# Altium integrated library TI Microcontroller 32-Bit ARM.IntLib: 163 symbols (part 3 of 10)
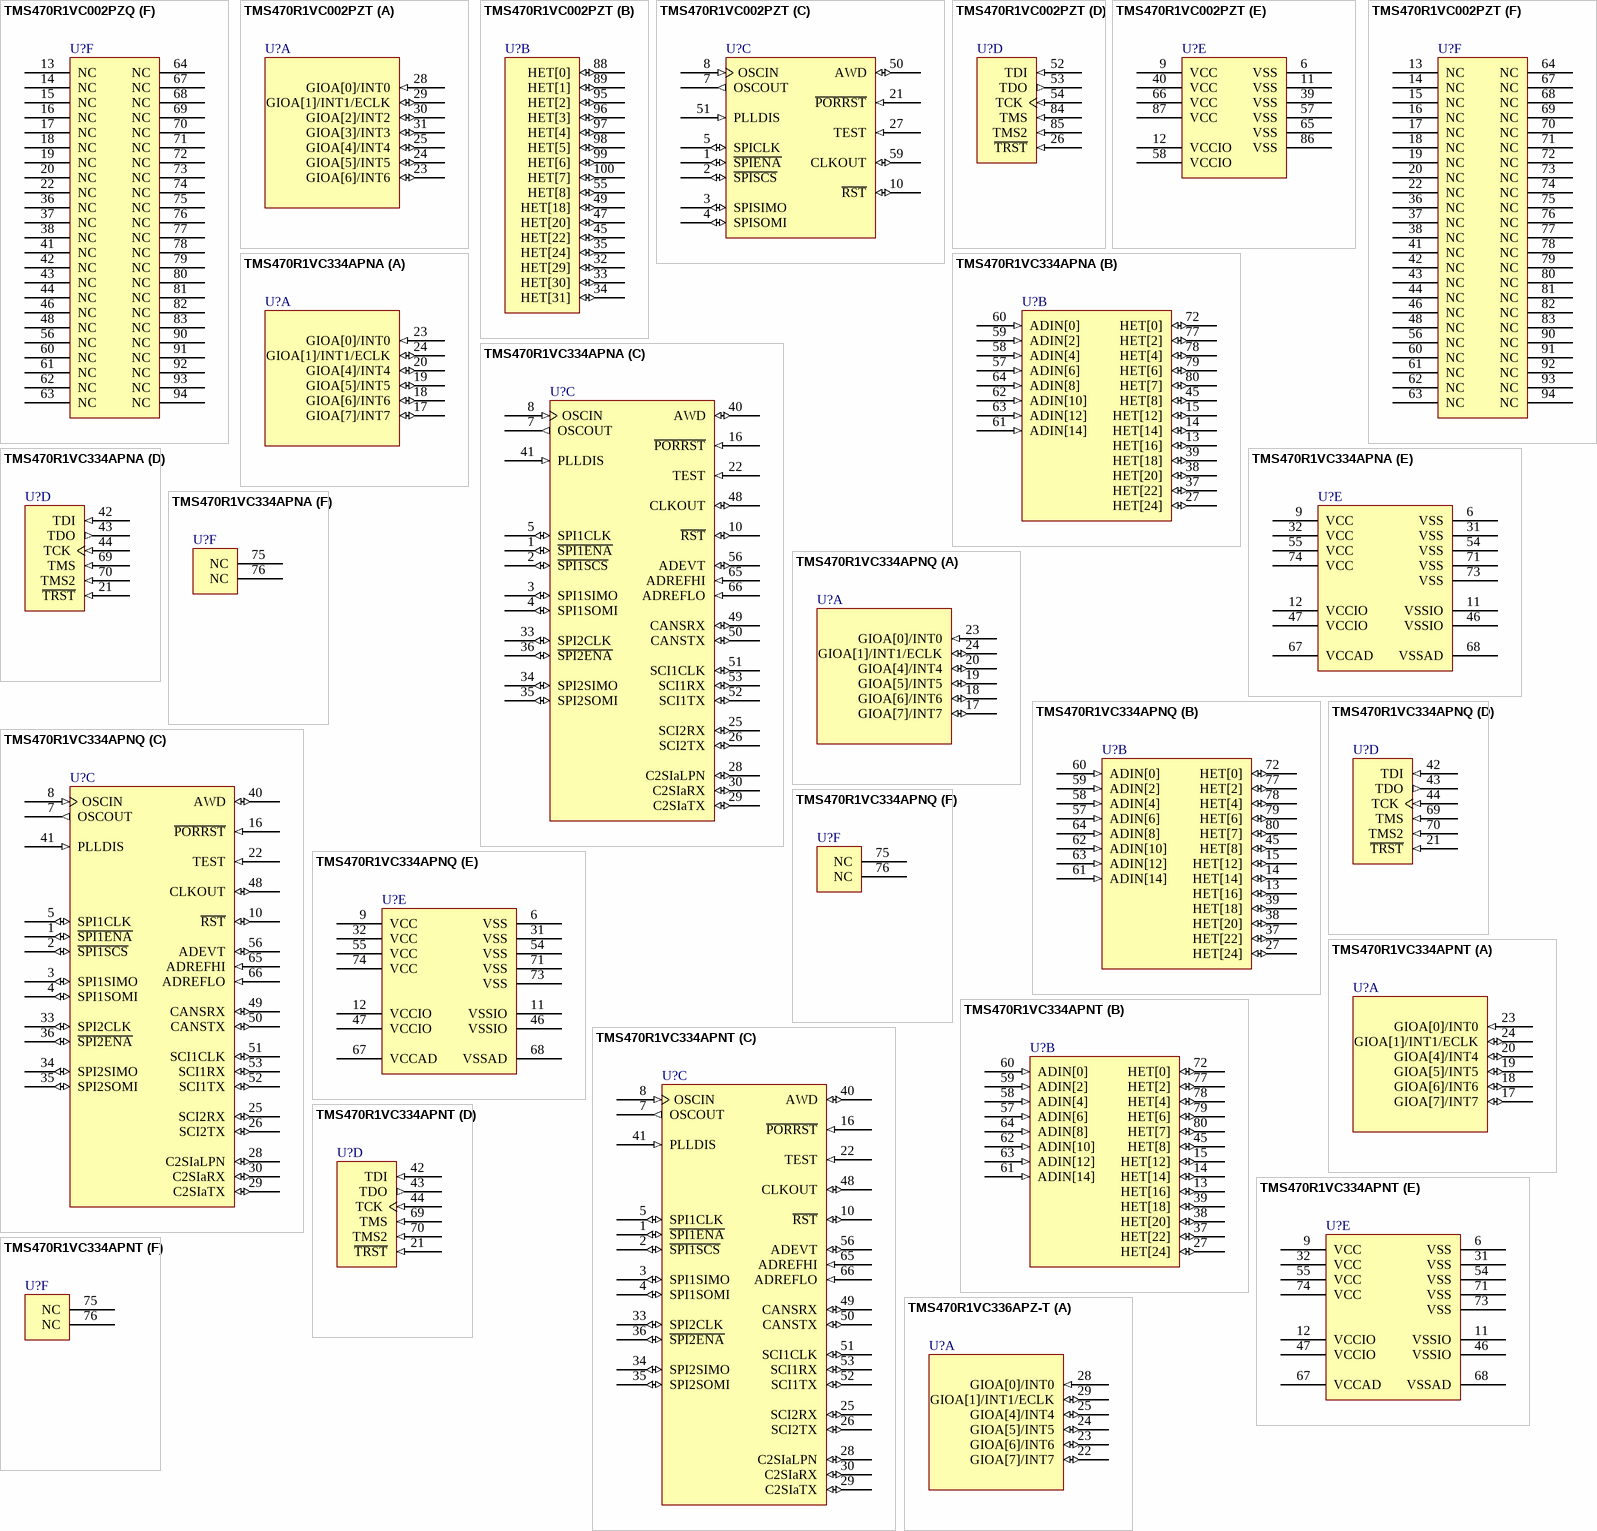
[diagram p54: symbols TMS470R1VC002PZQ to TMS470R1VC336APZ-T]

## TMS470R1VC002PZQ
designator U?
ARM7TDMI 16/32-Bit RISC Automotive MCU, 32KB ROM, 2.5KB RAM, 100-pin LQFP, -40ºC to 125ºC; Published: 30-Mar-2007; DatasheetVersion: Oct-2002; PackageVersion: Dec-1996; PackageReference: PZ100; Publisher: Altium Limited; PackageDescription: 100-Pin Thin Quad Flat Pack 0.5 mm Pitch; ComponentLink1Description: Manufacturer Link; ComponentLink1URL: http://www.ti.com/; ComponentLink2Description: Datasheet; ComponentLink2URL: http://focus.ti.com/lit/ds/symlink/tms470r1vc002.pdf
footprint PZ100_N (Thin QFP, 100-Leads, Body 14x14mm, Pitch 0.5mm, IPC Medium Density)
footprint PZ100_L (Thin QFP, 100-Leads, Body 14x14mm, Pitch 0.5mm, IPC High Density)
footprint PZ100_M (Thin QFP, 100-Leads, Body 14x14mm, Pitch 0.5mm, IPC Low Density)
part A pins: 23 GIOA[6]/INT6 (io), 24 GIOA[5]/INT5 (io), 25 GIOA[4]/INT4 (io), 28 GIOA[0]/INT0 (in), 29 GIOA[1]/INT1/ECLK (io), 30 GIOA[2]/INT2 (io), 31 GIOA[3]/INT3 (io)
part B pins: 32 HET[29] (io), 33 HET[30] (io), 34 HET[31] (io), 35 HET[24] (io), 45 HET[22] (io), 47 HET[20] (io), 49 HET[18] (io), 55 HET[8] (io), 88 HET[0] (io), 89 HET[1] (io), 95 HET[2] (io), 96 HET[3] (io), 97 HET[4] (io), 98 HET[5] (io), 99 HET[6] (io), 100 HET[7] (io)
part C pins: 1 ~{SPIENA} (io), 2 ~{SPISCS} (io), 3 SPISIMO (io), 4 SPISOMI (io), 5 SPICLK (io), 7 OSCOUT (out), 8 OSCIN (in), 10 ~{RST} (io), 21 ~{PORRST} (in), 27 TEST (in), 50 AWD (io), 51 PLLDIS (in), 59 CLKOUT (io)
part D pins: 26 ~{TRST} (in), 52 TDI (in), 53 TDO (out), 54 TCK (in), 84 TMS (in), 85 TMS2 (in) "Serial input for controlling the second TAP. For proper operation, this pin must be connected to VCC or not connected."
part E pins: 6 VSS (power), 9 VCC (power), 11 VSS (power), 12 VCCIO (power), 39 VSS (power), 40 VCC (power), 57 VSS (power), 58 VCCIO (power), 65 VSS (power), 66 VCC (power), 86 VSS (power), 87 VCC (power)
part F pins: 13 NC, 14 NC, 15 NC, 16 NC, 17 NC, 18 NC, 19 NC, 20 NC, 22 NC, 36 NC, 37 NC, 38 NC, 41 NC, 42 NC, 43 NC, 44 NC, 46 NC, 48 NC, 56 NC, 60 NC, 61 NC, 62 NC, 63 NC, 64 NC, 67 NC, 68 NC, 69 NC, 70 NC, 71 NC, 72 NC, 73 NC, 74 NC, 75 NC, 76 NC, 77 NC, 78 NC, 79 NC, 80 NC, 81 NC, 82 NC, 83 NC, 90 NC, 91 NC, 92 NC, 93 NC, 94 NC

## TMS470R1VC002PZT
designator U?
ARM7TDMI 16/32-Bit RISC Automotive MCU, 32KB ROM, 2.5KB RAM, 100-pin LQFP, -40ºC to 105ºC; Published: 30-Mar-2007; DatasheetVersion: Oct-2002; PackageVersion: Dec-1996; PackageReference: PZ100; Publisher: Altium Limited; PackageDescription: 100-Pin Thin Quad Flat Pack 0.5 mm Pitch; ComponentLink1Description: Manufacturer Link; ComponentLink1URL: http://www.ti.com/; ComponentLink2Description: Datasheet; ComponentLink2URL: http://focus.ti.com/lit/ds/symlink/tms470r1vc002.pdf
footprint PZ100_N (Thin QFP, 100-Leads, Body 14x14mm, Pitch 0.5mm, IPC Medium Density)
footprint PZ100_L (Thin QFP, 100-Leads, Body 14x14mm, Pitch 0.5mm, IPC High Density)
footprint PZ100_M (Thin QFP, 100-Leads, Body 14x14mm, Pitch 0.5mm, IPC Low Density)
part A pins: 23 GIOA[6]/INT6 (io), 24 GIOA[5]/INT5 (io), 25 GIOA[4]/INT4 (io), 28 GIOA[0]/INT0 (in), 29 GIOA[1]/INT1/ECLK (io), 30 GIOA[2]/INT2 (io), 31 GIOA[3]/INT3 (io)
part B pins: 32 HET[29] (io), 33 HET[30] (io), 34 HET[31] (io), 35 HET[24] (io), 45 HET[22] (io), 47 HET[20] (io), 49 HET[18] (io), 55 HET[8] (io), 88 HET[0] (io), 89 HET[1] (io), 95 HET[2] (io), 96 HET[3] (io), 97 HET[4] (io), 98 HET[5] (io), 99 HET[6] (io), 100 HET[7] (io)
part C pins: 1 ~{SPIENA} (io), 2 ~{SPISCS} (io), 3 SPISIMO (io), 4 SPISOMI (io), 5 SPICLK (io), 7 OSCOUT (out), 8 OSCIN (in), 10 ~{RST} (io), 21 ~{PORRST} (in), 27 TEST (in), 50 AWD (io), 51 PLLDIS (in), 59 CLKOUT (io)
part D pins: 26 ~{TRST} (in), 52 TDI (in), 53 TDO (out), 54 TCK (in), 84 TMS (in), 85 TMS2 (in) "Serial input for controlling the second TAP. For proper operation, this pin must be connected to VCC or not connected."
part E pins: 6 VSS (power), 9 VCC (power), 11 VSS (power), 12 VCCIO (power), 39 VSS (power), 40 VCC (power), 57 VSS (power), 58 VCCIO (power), 65 VSS (power), 66 VCC (power), 86 VSS (power), 87 VCC (power)
part F pins: 13 NC, 14 NC, 15 NC, 16 NC, 17 NC, 18 NC, 19 NC, 20 NC, 22 NC, 36 NC, 37 NC, 38 NC, 41 NC, 42 NC, 43 NC, 44 NC, 46 NC, 48 NC, 56 NC, 60 NC, 61 NC, 62 NC, 63 NC, 64 NC, 67 NC, 68 NC, 69 NC, 70 NC, 71 NC, 72 NC, 73 NC, 74 NC, 75 NC, 76 NC, 77 NC, 78 NC, 79 NC, 80 NC, 81 NC, 82 NC, 83 NC, 90 NC, 91 NC, 92 NC, 93 NC, 94 NC

## TMS470R1VC334APNA
designator U?
ARM7TDMI 16/32-Bit RISC Automotive MCU, 64KB ROM, 4KB RAM, 80-pin LQFP, -40ºC to 85ºC; Published: 30-Mar-2007; DatasheetVersion: Mar-2006; PackageVersion: Dec-1996; PackageReference: PN080; Publisher: Altium Limited; PackageDescription: 80-Pin Thin Quad Flat Pack 0.5 mm Pitch; ComponentLink1Description: Manufacturer Link; ComponentLink1URL: http://www.ti.com/; ComponentLink2Description: Datasheet; ComponentLink2URL: http://focus.ti.com/lit/ds/symlink/tms470r1vc334a.pdf
footprint PN080_N (Thin QFP, 80-Leads, Body 12x12mm, Pitch 0.5mm, IPC Medium Density)
footprint PN080_L (Thin QFP, 80-Leads, Body 12x12mm, Pitch 0.5mm, IPC High Density)
footprint PN080_M (Thin QFP, 80-Leads, Body 12x12mm, Pitch 0.5mm, IPC Low Density)
part A pins: 17 GIOA[7]/INT7 (io), 18 GIOA[6]/INT6 (io), 19 GIOA[5]/INT5 (io), 20 GIOA[4]/INT4 (io), 23 GIOA[0]/INT0 (in), 24 GIOA[1]/INT1/ECLK (io)
part B pins: 13 HET[16] (io), 14 HET[14] (io), 15 HET[12] (io), 27 HET[24] (io), 37 HET[22] (io), 38 HET[20] (io), 39 HET[18] (io), 45 HET[8] (io), 57 ADIN[6] (in), 58 ADIN[4] (in), 59 ADIN[2] (in), 60 ADIN[0] (in), 61 ADIN[14] (in), 62 ADIN[10] (in), 63 ADIN[12] (in), 64 ADIN[8] (in), 72 HET[0] (io), 77 HET[2] (io), 78 HET[4] (io), 79 HET[6] (io), 80 HET[7] (io)
part C pins: 1 ~{SPI1ENA} (io), 2 ~{SPI1SCS} (io), 3 SPI1SIMO (io), 4 SPI1SOMI (io), 5 SPI1CLK (io), 7 OSCOUT (out), 8 OSCIN (in), 10 ~{RST} (io), 16 ~{PORRST} (in), 22 TEST (in), 25 SCI2RX (io), 26 SCI2TX (io), 28 C2SIaLPN (io), 29 C2SIaTX (io), 30 C2SIaRX (io), 33 SPI2CLK (io), 34 SPI2SIMO (io), 35 SPI2SOMI (io), 36 ~{SPI2ENA} (io), 40 AWD (io), 41 PLLDIS (in), 48 CLKOUT (io), 49 CANSRX (io), 50 CANSTX (io), 51 SCI1CLK (io), 52 SCI1TX (io), 53 SCI1RX (io), 56 ADEVT (io), 65 ADREFHI (in), 66 ADREFLO (in)
part D pins: 21 ~{TRST} (in), 42 TDI (in), 43 TDO (out), 44 TCK (in), 69 TMS (in), 70 TMS2 (in)
part E pins: 6 VSS (power), 9 VCC (power), 11 VSSIO (power), 12 VCCIO (power), 31 VSS (power), 32 VCC (power), 46 VSSIO (power), 47 VCCIO (power), 54 VSS (power), 55 VCC (power), 67 VCCAD (power), 68 VSSAD (power), 71 VSS (power), 73 VSS (power), 74 VCC (power)
part F pins: 75 NC, 76 NC

## TMS470R1VC334APNQ
designator U?
ARM7TDMI 16/32-Bit RISC Automotive MCU, 64KB ROM, 4KB RAM, 80-pin LQFP, -40ºC to 125ºC; Published: 30-Mar-2007; DatasheetVersion: Mar-2006; PackageVersion: Dec-1996; PackageReference: PN080; Publisher: Altium Limited; PackageDescription: 80-Pin Thin Quad Flat Pack 0.5 mm Pitch; ComponentLink1Description: Manufacturer Link; ComponentLink1URL: http://www.ti.com/; ComponentLink2Description: Datasheet; ComponentLink2URL: http://focus.ti.com/lit/ds/symlink/tms470r1vc334a.pdf
footprint PN080_N (Thin QFP, 80-Leads, Body 12x12mm, Pitch 0.5mm, IPC Medium Density)
footprint PN080_L (Thin QFP, 80-Leads, Body 12x12mm, Pitch 0.5mm, IPC High Density)
footprint PN080_M (Thin QFP, 80-Leads, Body 12x12mm, Pitch 0.5mm, IPC Low Density)
part A pins: 17 GIOA[7]/INT7 (io), 18 GIOA[6]/INT6 (io), 19 GIOA[5]/INT5 (io), 20 GIOA[4]/INT4 (io), 23 GIOA[0]/INT0 (in), 24 GIOA[1]/INT1/ECLK (io)
part B pins: 13 HET[16] (io), 14 HET[14] (io), 15 HET[12] (io), 27 HET[24] (io), 37 HET[22] (io), 38 HET[20] (io), 39 HET[18] (io), 45 HET[8] (io), 57 ADIN[6] (in), 58 ADIN[4] (in), 59 ADIN[2] (in), 60 ADIN[0] (in), 61 ADIN[14] (in), 62 ADIN[10] (in), 63 ADIN[12] (in), 64 ADIN[8] (in), 72 HET[0] (io), 77 HET[2] (io), 78 HET[4] (io), 79 HET[6] (io), 80 HET[7] (io)
part C pins: 1 ~{SPI1ENA} (io), 2 ~{SPI1SCS} (io), 3 SPI1SIMO (io), 4 SPI1SOMI (io), 5 SPI1CLK (io), 7 OSCOUT (out), 8 OSCIN (in), 10 ~{RST} (io), 16 ~{PORRST} (in), 22 TEST (in), 25 SCI2RX (io), 26 SCI2TX (io), 28 C2SIaLPN (io), 29 C2SIaTX (io), 30 C2SIaRX (io), 33 SPI2CLK (io), 34 SPI2SIMO (io), 35 SPI2SOMI (io), 36 ~{SPI2ENA} (io), 40 AWD (io), 41 PLLDIS (in), 48 CLKOUT (io), 49 CANSRX (io), 50 CANSTX (io), 51 SCI1CLK (io), 52 SCI1TX (io), 53 SCI1RX (io), 56 ADEVT (io), 65 ADREFHI (in), 66 ADREFLO (in)
part D pins: 21 ~{TRST} (in), 42 TDI (in), 43 TDO (out), 44 TCK (in), 69 TMS (in), 70 TMS2 (in)
part E pins: 6 VSS (power), 9 VCC (power), 11 VSSIO (power), 12 VCCIO (power), 31 VSS (power), 32 VCC (power), 46 VSSIO (power), 47 VCCIO (power), 54 VSS (power), 55 VCC (power), 67 VCCAD (power), 68 VSSAD (power), 71 VSS (power), 73 VSS (power), 74 VCC (power)
part F pins: 75 NC, 76 NC

## TMS470R1VC334APNT
designator U?
ARM7TDMI 16/32-Bit RISC Automotive MCU, 64KB ROM, 4KB RAM, 80-pin LQFP, -40ºC to 105ºC; Published: 30-Mar-2007; DatasheetVersion: Mar-2006; PackageVersion: Dec-1996; PackageReference: PN080; Publisher: Altium Limited; PackageDescription: 80-Pin Thin Quad Flat Pack 0.5 mm Pitch; ComponentLink1Description: Manufacturer Link; ComponentLink1URL: http://www.ti.com/; ComponentLink2Description: Datasheet; ComponentLink2URL: http://focus.ti.com/lit/ds/symlink/tms470r1vc334a.pdf
footprint PN080_N (Thin QFP, 80-Leads, Body 12x12mm, Pitch 0.5mm, IPC Medium Density)
footprint PN080_L (Thin QFP, 80-Leads, Body 12x12mm, Pitch 0.5mm, IPC High Density)
footprint PN080_M (Thin QFP, 80-Leads, Body 12x12mm, Pitch 0.5mm, IPC Low Density)
part A pins: 17 GIOA[7]/INT7 (io), 18 GIOA[6]/INT6 (io), 19 GIOA[5]/INT5 (io), 20 GIOA[4]/INT4 (io), 23 GIOA[0]/INT0 (in), 24 GIOA[1]/INT1/ECLK (io)
part B pins: 13 HET[16] (io), 14 HET[14] (io), 15 HET[12] (io), 27 HET[24] (io), 37 HET[22] (io), 38 HET[20] (io), 39 HET[18] (io), 45 HET[8] (io), 57 ADIN[6] (in), 58 ADIN[4] (in), 59 ADIN[2] (in), 60 ADIN[0] (in), 61 ADIN[14] (in), 62 ADIN[10] (in), 63 ADIN[12] (in), 64 ADIN[8] (in), 72 HET[0] (io), 77 HET[2] (io), 78 HET[4] (io), 79 HET[6] (io), 80 HET[7] (io)
part C pins: 1 ~{SPI1ENA} (io), 2 ~{SPI1SCS} (io), 3 SPI1SIMO (io), 4 SPI1SOMI (io), 5 SPI1CLK (io), 7 OSCOUT (out), 8 OSCIN (in), 10 ~{RST} (io), 16 ~{PORRST} (in), 22 TEST (in), 25 SCI2RX (io), 26 SCI2TX (io), 28 C2SIaLPN (io), 29 C2SIaTX (io), 30 C2SIaRX (io), 33 SPI2CLK (io), 34 SPI2SIMO (io), 35 SPI2SOMI (io), 36 ~{SPI2ENA} (io), 40 AWD (io), 41 PLLDIS (in), 48 CLKOUT (io), 49 CANSRX (io), 50 CANSTX (io), 51 SCI1CLK (io), 52 SCI1TX (io), 53 SCI1RX (io), 56 ADEVT (io), 65 ADREFHI (in), 66 ADREFLO (in)
part D pins: 21 ~{TRST} (in), 42 TDI (in), 43 TDO (out), 44 TCK (in), 69 TMS (in), 70 TMS2 (in)
part E pins: 6 VSS (power), 9 VCC (power), 11 VSSIO (power), 12 VCCIO (power), 31 VSS (power), 32 VCC (power), 46 VSSIO (power), 47 VCCIO (power), 54 VSS (power), 55 VCC (power), 67 VCCAD (power), 68 VSSAD (power), 71 VSS (power), 73 VSS (power), 74 VCC (power)
part F pins: 75 NC, 76 NC

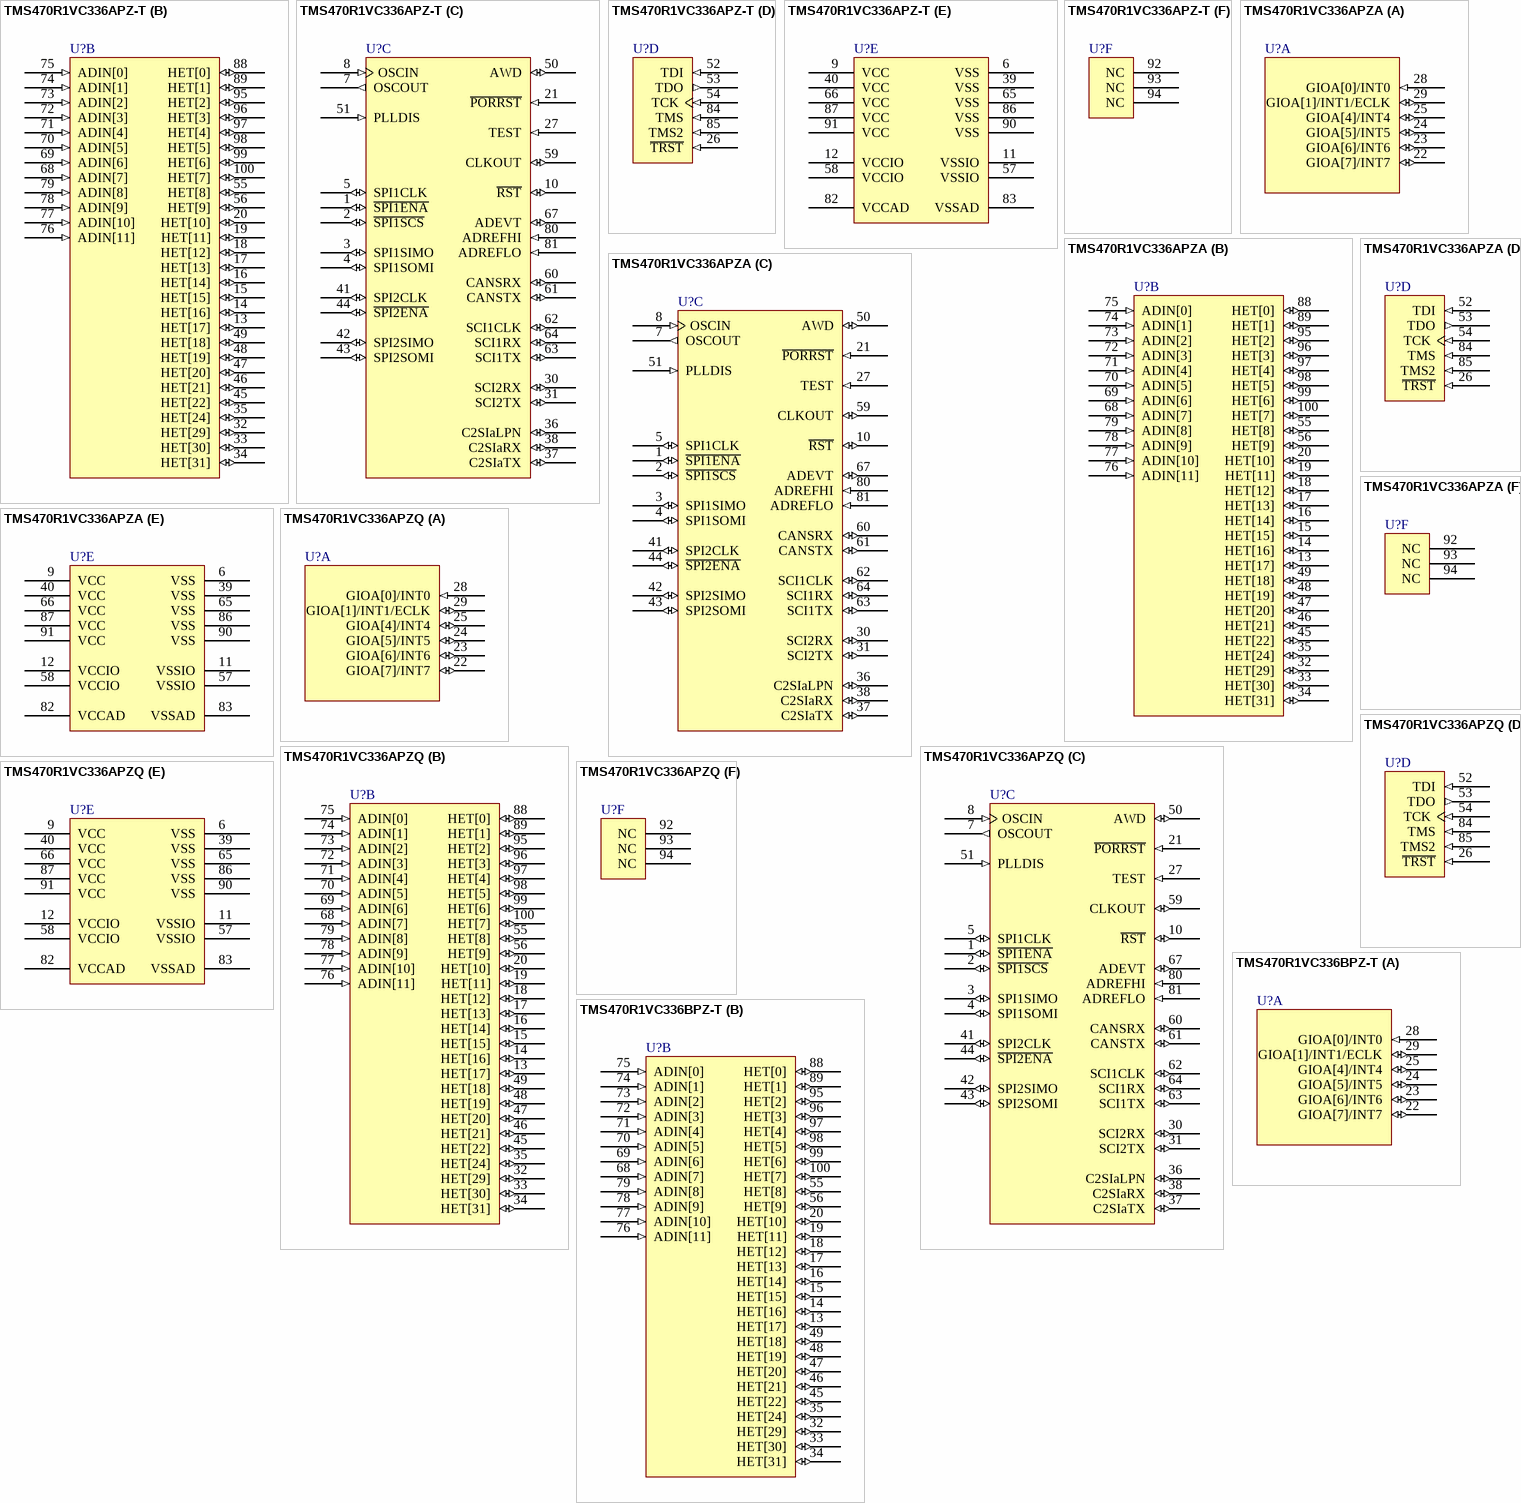
[diagram p12: symbols TMS470R1VC336APZ-T to TMS470R1VC336BPZ-T]

## TMS470R1VC336APZ-T
designator U?
ARM7TDMI 16/32-Bit RISC Automotive MCU, 128KB ROM, 8KB RAM, 100-pin LQFP, -40ºC to 105ºC; Note: The HET[28] signal is only connected to the pad, not to a package pin.; Published: 30-Mar-2007; DatasheetVersion: Aug-2006; PackageVersion: Dec-1996; PackageReference: PZ100; Publisher: Altium Limited; PackageDescription: 100-Pin Thin Quad Flat Pack 0.5 mm Pitch; ComponentLink1Description: Manufacturer Link; ComponentLink1URL: http://www.ti.com/; ComponentLink2Description: Datasheet; ComponentLink2URL: http://focus.ti.com/lit/ds/symlink/tms470r1vc336a.pdf
footprint PZ100_N (Thin QFP, 100-Leads, Body 14x14mm, Pitch 0.5mm, IPC Medium Density)
footprint PZ100_L (Thin QFP, 100-Leads, Body 14x14mm, Pitch 0.5mm, IPC High Density)
footprint PZ100_M (Thin QFP, 100-Leads, Body 14x14mm, Pitch 0.5mm, IPC Low Density)
part A pins: 22 GIOA[7]/INT7 (io), 23 GIOA[6]/INT6 (io), 24 GIOA[5]/INT5 (io), 25 GIOA[4]/INT4 (io), 28 GIOA[0]/INT0 (in), 29 GIOA[1]/INT1/ECLK (io)
part B pins: 13 HET[17] (io), 14 HET[16] (io), 15 HET[15] (io), 16 HET[14] (io), 17 HET[13] (io), 18 HET[12] (io), 19 HET[11] (io), 20 HET[10] (io), 32 HET[29] (io), 33 HET[30] (io), 34 HET[31] (io), 35 HET[24] (io), 45 HET[22] (io), 46 HET[21] (io), 47 HET[20] (io), 48 HET[19] (io), 49 HET[18] (io), 55 HET[8] (io), 56 HET[9] (io), 68 ADIN[7] (in), 69 ADIN[6] (in), 70 ADIN[5] (in), 71 ADIN[4] (in), 72 ADIN[3] (in), 73 ADIN[2] (in), 74 ADIN[1] (in), 75 ADIN[0] (in), 76 ADIN[11] (in), 77 ADIN[10] (in), 78 ADIN[9] (in), 79 ADIN[8] (in), 88 HET[0] (io), 89 HET[1] (io), 95 HET[2] (io), 96 HET[3] (io), 97 HET[4] (io), 98 HET[5] (io), 99 HET[6] (io), 100 HET[7] (io)
part C pins: 1 ~{SPI1ENA} (io), 2 ~{SPI1SCS} (io), 3 SPI1SIMO (io), 4 SPI1SOMI (io), 5 SPI1CLK (io), 7 OSCOUT (out), 8 OSCIN (in), 10 ~{RST} (io), 21 ~{PORRST} (in), 27 TEST (in), 30 SCI2RX (io), 31 SCI2TX (io), 36 C2SIaLPN (io), 37 C2SIaTX (io), 38 C2SIaRX (io), 41 SPI2CLK (io), 42 SPI2SIMO (io), 43 SPI2SOMI (io), 44 ~{SPI2ENA} (io), 50 AWD (io), 51 PLLDIS (in), 59 CLKOUT (io), 60 CANSRX (io), 61 CANSTX (io), 62 SCI1CLK (io), 63 SCI1TX (io), 64 SCI1RX (io), 67 ADEVT (io), 80 ADREFHI (in), 81 ADREFLO (in)
part D pins: 26 ~{TRST} (in), 52 TDI (in), 53 TDO (out), 54 TCK (in), 84 TMS (in), 85 TMS2 (in)
part E pins: 6 VSS (power), 9 VCC (power), 11 VSSIO (power), 12 VCCIO (power), 39 VSS (power), 40 VCC (power), 57 VSSIO (power), 58 VCCIO (power), 65 VSS (power), 66 VCC (power), 82 VCCAD (power), 83 VSSAD (power), 86 VSS (power), 87 VCC (power), 90 VSS (power), 91 VCC (power)
part F pins: 92 NC, 93 NC, 94 NC

## TMS470R1VC336APZA
designator U?
ARM7TDMI 16/32-Bit RISC Automotive MCU, 128KB ROM, 8KB RAM, 100-pin LQFP, -40ºC to 85ºC; Note: The HET[28] signal is only connected to the pad, not to a package pin.; Published: 30-Mar-2007; DatasheetVersion: Aug-2006; PackageVersion: Dec-1996; PackageReference: PZ100; Publisher: Altium Limited; PackageDescription: 100-Pin Thin Quad Flat Pack 0.5 mm Pitch; ComponentLink1Description: Manufacturer Link; ComponentLink1URL: http://www.ti.com/; ComponentLink2Description: Datasheet; ComponentLink2URL: http://focus.ti.com/lit/ds/symlink/tms470r1vc336a.pdf
footprint PZ100_N (Thin QFP, 100-Leads, Body 14x14mm, Pitch 0.5mm, IPC Medium Density)
footprint PZ100_L (Thin QFP, 100-Leads, Body 14x14mm, Pitch 0.5mm, IPC High Density)
footprint PZ100_M (Thin QFP, 100-Leads, Body 14x14mm, Pitch 0.5mm, IPC Low Density)
part A pins: 22 GIOA[7]/INT7 (io), 23 GIOA[6]/INT6 (io), 24 GIOA[5]/INT5 (io), 25 GIOA[4]/INT4 (io), 28 GIOA[0]/INT0 (in), 29 GIOA[1]/INT1/ECLK (io)
part B pins: 13 HET[17] (io), 14 HET[16] (io), 15 HET[15] (io), 16 HET[14] (io), 17 HET[13] (io), 18 HET[12] (io), 19 HET[11] (io), 20 HET[10] (io), 32 HET[29] (io), 33 HET[30] (io), 34 HET[31] (io), 35 HET[24] (io), 45 HET[22] (io), 46 HET[21] (io), 47 HET[20] (io), 48 HET[19] (io), 49 HET[18] (io), 55 HET[8] (io), 56 HET[9] (io), 68 ADIN[7] (in), 69 ADIN[6] (in), 70 ADIN[5] (in), 71 ADIN[4] (in), 72 ADIN[3] (in), 73 ADIN[2] (in), 74 ADIN[1] (in), 75 ADIN[0] (in), 76 ADIN[11] (in), 77 ADIN[10] (in), 78 ADIN[9] (in), 79 ADIN[8] (in), 88 HET[0] (io), 89 HET[1] (io), 95 HET[2] (io), 96 HET[3] (io), 97 HET[4] (io), 98 HET[5] (io), 99 HET[6] (io), 100 HET[7] (io)
part C pins: 1 ~{SPI1ENA} (io), 2 ~{SPI1SCS} (io), 3 SPI1SIMO (io), 4 SPI1SOMI (io), 5 SPI1CLK (io), 7 OSCOUT (out), 8 OSCIN (in), 10 ~{RST} (io), 21 ~{PORRST} (in), 27 TEST (in), 30 SCI2RX (io), 31 SCI2TX (io), 36 C2SIaLPN (io), 37 C2SIaTX (io), 38 C2SIaRX (io), 41 SPI2CLK (io), 42 SPI2SIMO (io), 43 SPI2SOMI (io), 44 ~{SPI2ENA} (io), 50 AWD (io), 51 PLLDIS (in), 59 CLKOUT (io), 60 CANSRX (io), 61 CANSTX (io), 62 SCI1CLK (io), 63 SCI1TX (io), 64 SCI1RX (io), 67 ADEVT (io), 80 ADREFHI (in), 81 ADREFLO (in)
part D pins: 26 ~{TRST} (in), 52 TDI (in), 53 TDO (out), 54 TCK (in), 84 TMS (in), 85 TMS2 (in)
part E pins: 6 VSS (power), 9 VCC (power), 11 VSSIO (power), 12 VCCIO (power), 39 VSS (power), 40 VCC (power), 57 VSSIO (power), 58 VCCIO (power), 65 VSS (power), 66 VCC (power), 82 VCCAD (power), 83 VSSAD (power), 86 VSS (power), 87 VCC (power), 90 VSS (power), 91 VCC (power)
part F pins: 92 NC, 93 NC, 94 NC

## TMS470R1VC336APZQ
designator U?
ARM7TDMI 16/32-Bit RISC Automotive MCU, 128KB ROM, 8KB RAM, 100-pin LQFP, -40ºC to 125ºC; Note: The HET[28] signal is only connected to the pad, not to a package pin.; Published: 30-Mar-2007; DatasheetVersion: Aug-2006; PackageVersion: Dec-1996; PackageReference: PZ100; Publisher: Altium Limited; PackageDescription: 100-Pin Thin Quad Flat Pack 0.5 mm Pitch; ComponentLink1Description: Manufacturer Link; ComponentLink1URL: http://www.ti.com/; ComponentLink2Description: Datasheet; ComponentLink2URL: http://focus.ti.com/lit/ds/symlink/tms470r1vc336a.pdf
footprint PZ100_N (Thin QFP, 100-Leads, Body 14x14mm, Pitch 0.5mm, IPC Medium Density)
footprint PZ100_L (Thin QFP, 100-Leads, Body 14x14mm, Pitch 0.5mm, IPC High Density)
footprint PZ100_M (Thin QFP, 100-Leads, Body 14x14mm, Pitch 0.5mm, IPC Low Density)
part A pins: 22 GIOA[7]/INT7 (io), 23 GIOA[6]/INT6 (io), 24 GIOA[5]/INT5 (io), 25 GIOA[4]/INT4 (io), 28 GIOA[0]/INT0 (in), 29 GIOA[1]/INT1/ECLK (io)
part B pins: 13 HET[17] (io), 14 HET[16] (io), 15 HET[15] (io), 16 HET[14] (io), 17 HET[13] (io), 18 HET[12] (io), 19 HET[11] (io), 20 HET[10] (io), 32 HET[29] (io), 33 HET[30] (io), 34 HET[31] (io), 35 HET[24] (io), 45 HET[22] (io), 46 HET[21] (io), 47 HET[20] (io), 48 HET[19] (io), 49 HET[18] (io), 55 HET[8] (io), 56 HET[9] (io), 68 ADIN[7] (in), 69 ADIN[6] (in), 70 ADIN[5] (in), 71 ADIN[4] (in), 72 ADIN[3] (in), 73 ADIN[2] (in), 74 ADIN[1] (in), 75 ADIN[0] (in), 76 ADIN[11] (in), 77 ADIN[10] (in), 78 ADIN[9] (in), 79 ADIN[8] (in), 88 HET[0] (io), 89 HET[1] (io), 95 HET[2] (io), 96 HET[3] (io), 97 HET[4] (io), 98 HET[5] (io), 99 HET[6] (io), 100 HET[7] (io)
part C pins: 1 ~{SPI1ENA} (io), 2 ~{SPI1SCS} (io), 3 SPI1SIMO (io), 4 SPI1SOMI (io), 5 SPI1CLK (io), 7 OSCOUT (out), 8 OSCIN (in), 10 ~{RST} (io), 21 ~{PORRST} (in), 27 TEST (in), 30 SCI2RX (io), 31 SCI2TX (io), 36 C2SIaLPN (io), 37 C2SIaTX (io), 38 C2SIaRX (io), 41 SPI2CLK (io), 42 SPI2SIMO (io), 43 SPI2SOMI (io), 44 ~{SPI2ENA} (io), 50 AWD (io), 51 PLLDIS (in), 59 CLKOUT (io), 60 CANSRX (io), 61 CANSTX (io), 62 SCI1CLK (io), 63 SCI1TX (io), 64 SCI1RX (io), 67 ADEVT (io), 80 ADREFHI (in), 81 ADREFLO (in)
part D pins: 26 ~{TRST} (in), 52 TDI (in), 53 TDO (out), 54 TCK (in), 84 TMS (in), 85 TMS2 (in)
part E pins: 6 VSS (power), 9 VCC (power), 11 VSSIO (power), 12 VCCIO (power), 39 VSS (power), 40 VCC (power), 57 VSSIO (power), 58 VCCIO (power), 65 VSS (power), 66 VCC (power), 82 VCCAD (power), 83 VSSAD (power), 86 VSS (power), 87 VCC (power), 90 VSS (power), 91 VCC (power)
part F pins: 92 NC, 93 NC, 94 NC

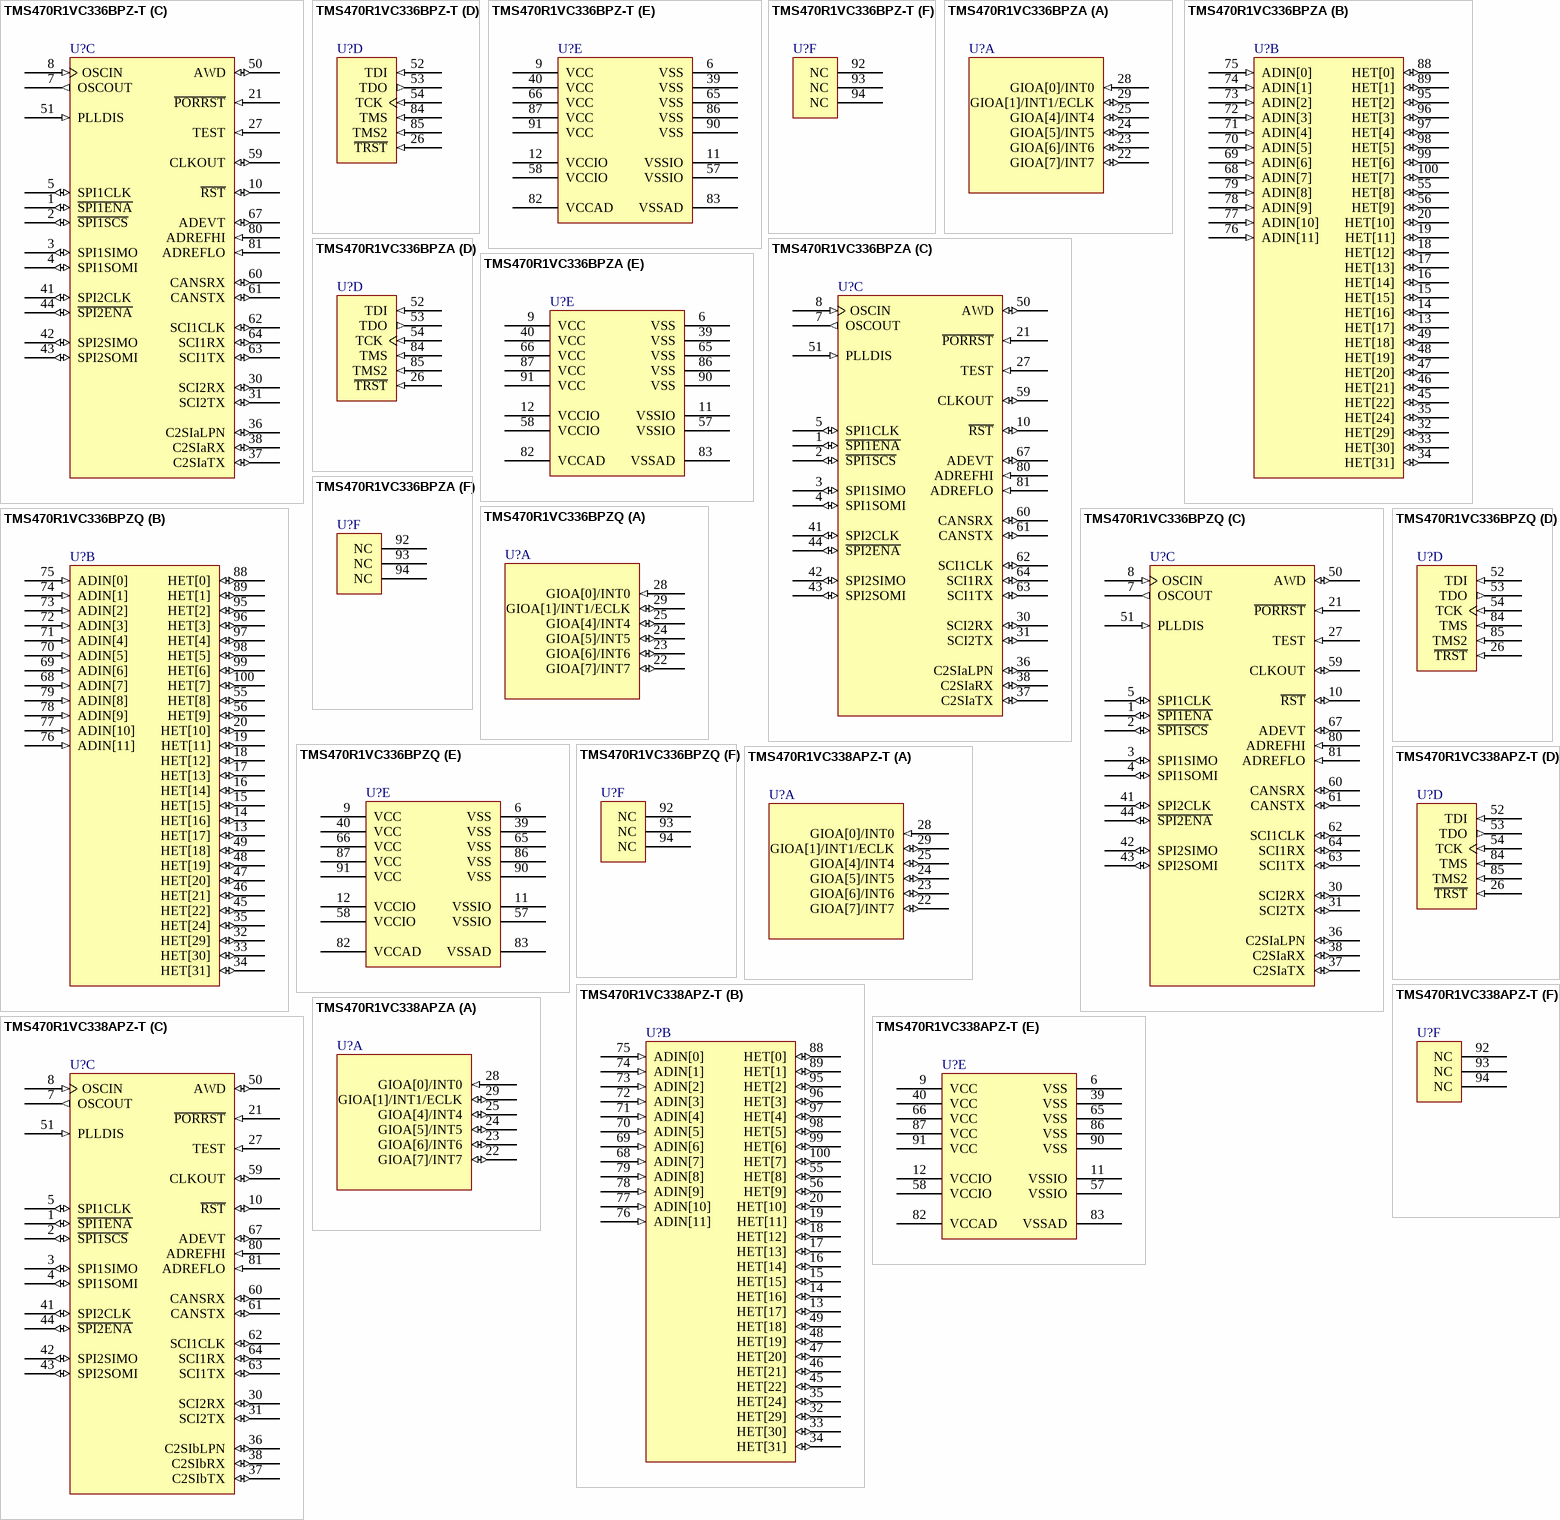
[diagram p13: symbols TMS470R1VC336BPZ-T to TMS470R1VC338APZA]

## TMS470R1VC336BPZ-T
designator U?
ARM7TDMI 16/32-Bit RISC Automotive MCU, 128KB ROM, 8KB RAM, 100-pin LQFP, -40ºC to 105ºC; Note: The HET[28] signal is only connected to the pad, not to a package pin.; Published: 30-Mar-2007; DatasheetVersion: Aug-2006; PackageVersion: Dec-1996; PackageReference: PZ100; Publisher: Altium Limited; PackageDescription: 100-Pin Thin Quad Flat Pack 0.5 mm Pitch; ComponentLink1Description: Manufacturer Link; ComponentLink1URL: http://www.ti.com/; ComponentLink2Description: Datasheet; ComponentLink2URL: http://focus.ti.com/lit/ds/symlink/tms470r1vc336a.pdf
footprint PZ100_N (Thin QFP, 100-Leads, Body 14x14mm, Pitch 0.5mm, IPC Medium Density)
footprint PZ100_L (Thin QFP, 100-Leads, Body 14x14mm, Pitch 0.5mm, IPC High Density)
footprint PZ100_M (Thin QFP, 100-Leads, Body 14x14mm, Pitch 0.5mm, IPC Low Density)
part A pins: 22 GIOA[7]/INT7 (io), 23 GIOA[6]/INT6 (io), 24 GIOA[5]/INT5 (io), 25 GIOA[4]/INT4 (io), 28 GIOA[0]/INT0 (in), 29 GIOA[1]/INT1/ECLK (io)
part B pins: 13 HET[17] (io), 14 HET[16] (io), 15 HET[15] (io), 16 HET[14] (io), 17 HET[13] (io), 18 HET[12] (io), 19 HET[11] (io), 20 HET[10] (io), 32 HET[29] (io), 33 HET[30] (io), 34 HET[31] (io), 35 HET[24] (io), 45 HET[22] (io), 46 HET[21] (io), 47 HET[20] (io), 48 HET[19] (io), 49 HET[18] (io), 55 HET[8] (io), 56 HET[9] (io), 68 ADIN[7] (in), 69 ADIN[6] (in), 70 ADIN[5] (in), 71 ADIN[4] (in), 72 ADIN[3] (in), 73 ADIN[2] (in), 74 ADIN[1] (in), 75 ADIN[0] (in), 76 ADIN[11] (in), 77 ADIN[10] (in), 78 ADIN[9] (in), 79 ADIN[8] (in), 88 HET[0] (io), 89 HET[1] (io), 95 HET[2] (io), 96 HET[3] (io), 97 HET[4] (io), 98 HET[5] (io), 99 HET[6] (io), 100 HET[7] (io)
part C pins: 1 ~{SPI1ENA} (io), 2 ~{SPI1SCS} (io), 3 SPI1SIMO (io), 4 SPI1SOMI (io), 5 SPI1CLK (io), 7 OSCOUT (out), 8 OSCIN (in), 10 ~{RST} (io), 21 ~{PORRST} (in), 27 TEST (in), 30 SCI2RX (io), 31 SCI2TX (io), 36 C2SIaLPN (io), 37 C2SIaTX (io), 38 C2SIaRX (io), 41 SPI2CLK (io), 42 SPI2SIMO (io), 43 SPI2SOMI (io), 44 ~{SPI2ENA} (io), 50 AWD (io), 51 PLLDIS (in), 59 CLKOUT (io), 60 CANSRX (io), 61 CANSTX (io), 62 SCI1CLK (io), 63 SCI1TX (io), 64 SCI1RX (io), 67 ADEVT (io), 80 ADREFHI (in), 81 ADREFLO (in)
part D pins: 26 ~{TRST} (in), 52 TDI (in), 53 TDO (out), 54 TCK (in), 84 TMS (in), 85 TMS2 (in)
part E pins: 6 VSS (power), 9 VCC (power), 11 VSSIO (power), 12 VCCIO (power), 39 VSS (power), 40 VCC (power), 57 VSSIO (power), 58 VCCIO (power), 65 VSS (power), 66 VCC (power), 82 VCCAD (power), 83 VSSAD (power), 86 VSS (power), 87 VCC (power), 90 VSS (power), 91 VCC (power)
part F pins: 92 NC, 93 NC, 94 NC

## TMS470R1VC336BPZA
designator U?
ARM7TDMI 16/32-Bit RISC Automotive MCU, 128KB ROM, 8KB RAM, 100-pin LQFP, -40ºC to 85ºC; Note: The HET[28] signal is only connected to the pad, not to a package pin.; Published: 30-Mar-2007; DatasheetVersion: Aug-2006; PackageVersion: Dec-1996; PackageReference: PZ100; Publisher: Altium Limited; PackageDescription: 100-Pin Thin Quad Flat Pack 0.5 mm Pitch; ComponentLink1Description: Manufacturer Link; ComponentLink1URL: http://www.ti.com/; ComponentLink2Description: Datasheet; ComponentLink2URL: http://focus.ti.com/lit/ds/symlink/tms470r1vc336a.pdf
footprint PZ100_N (Thin QFP, 100-Leads, Body 14x14mm, Pitch 0.5mm, IPC Medium Density)
footprint PZ100_L (Thin QFP, 100-Leads, Body 14x14mm, Pitch 0.5mm, IPC High Density)
footprint PZ100_M (Thin QFP, 100-Leads, Body 14x14mm, Pitch 0.5mm, IPC Low Density)
part A pins: 22 GIOA[7]/INT7 (io), 23 GIOA[6]/INT6 (io), 24 GIOA[5]/INT5 (io), 25 GIOA[4]/INT4 (io), 28 GIOA[0]/INT0 (in), 29 GIOA[1]/INT1/ECLK (io)
part B pins: 13 HET[17] (io), 14 HET[16] (io), 15 HET[15] (io), 16 HET[14] (io), 17 HET[13] (io), 18 HET[12] (io), 19 HET[11] (io), 20 HET[10] (io), 32 HET[29] (io), 33 HET[30] (io), 34 HET[31] (io), 35 HET[24] (io), 45 HET[22] (io), 46 HET[21] (io), 47 HET[20] (io), 48 HET[19] (io), 49 HET[18] (io), 55 HET[8] (io), 56 HET[9] (io), 68 ADIN[7] (in), 69 ADIN[6] (in), 70 ADIN[5] (in), 71 ADIN[4] (in), 72 ADIN[3] (in), 73 ADIN[2] (in), 74 ADIN[1] (in), 75 ADIN[0] (in), 76 ADIN[11] (in), 77 ADIN[10] (in), 78 ADIN[9] (in), 79 ADIN[8] (in), 88 HET[0] (io), 89 HET[1] (io), 95 HET[2] (io), 96 HET[3] (io), 97 HET[4] (io), 98 HET[5] (io), 99 HET[6] (io), 100 HET[7] (io)
part C pins: 1 ~{SPI1ENA} (io), 2 ~{SPI1SCS} (io), 3 SPI1SIMO (io), 4 SPI1SOMI (io), 5 SPI1CLK (io), 7 OSCOUT (out), 8 OSCIN (in), 10 ~{RST} (io), 21 ~{PORRST} (in), 27 TEST (in), 30 SCI2RX (io), 31 SCI2TX (io), 36 C2SIaLPN (io), 37 C2SIaTX (io), 38 C2SIaRX (io), 41 SPI2CLK (io), 42 SPI2SIMO (io), 43 SPI2SOMI (io), 44 ~{SPI2ENA} (io), 50 AWD (io), 51 PLLDIS (in), 59 CLKOUT (io), 60 CANSRX (io), 61 CANSTX (io), 62 SCI1CLK (io), 63 SCI1TX (io), 64 SCI1RX (io), 67 ADEVT (io), 80 ADREFHI (in), 81 ADREFLO (in)
part D pins: 26 ~{TRST} (in), 52 TDI (in), 53 TDO (out), 54 TCK (in), 84 TMS (in), 85 TMS2 (in)
part E pins: 6 VSS (power), 9 VCC (power), 11 VSSIO (power), 12 VCCIO (power), 39 VSS (power), 40 VCC (power), 57 VSSIO (power), 58 VCCIO (power), 65 VSS (power), 66 VCC (power), 82 VCCAD (power), 83 VSSAD (power), 86 VSS (power), 87 VCC (power), 90 VSS (power), 91 VCC (power)
part F pins: 92 NC, 93 NC, 94 NC

## TMS470R1VC336BPZQ
designator U?
ARM7TDMI 16/32-Bit RISC Automotive MCU, 128KB ROM, 8KB RAM, 100-pin LQFP, -40ºC to 125ºC; Note: The HET[28] signal is only connected to the pad, not to a package pin.; Published: 30-Mar-2007; DatasheetVersion: Aug-2006; PackageVersion: Dec-1996; PackageReference: PZ100; Publisher: Altium Limited; PackageDescription: 100-Pin Thin Quad Flat Pack 0.5 mm Pitch; ComponentLink1Description: Manufacturer Link; ComponentLink1URL: http://www.ti.com/; ComponentLink2Description: Datasheet; ComponentLink2URL: http://focus.ti.com/lit/ds/symlink/tms470r1vc336a.pdf
footprint PZ100_N (Thin QFP, 100-Leads, Body 14x14mm, Pitch 0.5mm, IPC Medium Density)
footprint PZ100_L (Thin QFP, 100-Leads, Body 14x14mm, Pitch 0.5mm, IPC High Density)
footprint PZ100_M (Thin QFP, 100-Leads, Body 14x14mm, Pitch 0.5mm, IPC Low Density)
part A pins: 22 GIOA[7]/INT7 (io), 23 GIOA[6]/INT6 (io), 24 GIOA[5]/INT5 (io), 25 GIOA[4]/INT4 (io), 28 GIOA[0]/INT0 (in), 29 GIOA[1]/INT1/ECLK (io)
part B pins: 13 HET[17] (io), 14 HET[16] (io), 15 HET[15] (io), 16 HET[14] (io), 17 HET[13] (io), 18 HET[12] (io), 19 HET[11] (io), 20 HET[10] (io), 32 HET[29] (io), 33 HET[30] (io), 34 HET[31] (io), 35 HET[24] (io), 45 HET[22] (io), 46 HET[21] (io), 47 HET[20] (io), 48 HET[19] (io), 49 HET[18] (io), 55 HET[8] (io), 56 HET[9] (io), 68 ADIN[7] (in), 69 ADIN[6] (in), 70 ADIN[5] (in), 71 ADIN[4] (in), 72 ADIN[3] (in), 73 ADIN[2] (in), 74 ADIN[1] (in), 75 ADIN[0] (in), 76 ADIN[11] (in), 77 ADIN[10] (in), 78 ADIN[9] (in), 79 ADIN[8] (in), 88 HET[0] (io), 89 HET[1] (io), 95 HET[2] (io), 96 HET[3] (io), 97 HET[4] (io), 98 HET[5] (io), 99 HET[6] (io), 100 HET[7] (io)
part C pins: 1 ~{SPI1ENA} (io), 2 ~{SPI1SCS} (io), 3 SPI1SIMO (io), 4 SPI1SOMI (io), 5 SPI1CLK (io), 7 OSCOUT (out), 8 OSCIN (in), 10 ~{RST} (io), 21 ~{PORRST} (in), 27 TEST (in), 30 SCI2RX (io), 31 SCI2TX (io), 36 C2SIaLPN (io), 37 C2SIaTX (io), 38 C2SIaRX (io), 41 SPI2CLK (io), 42 SPI2SIMO (io), 43 SPI2SOMI (io), 44 ~{SPI2ENA} (io), 50 AWD (io), 51 PLLDIS (in), 59 CLKOUT (io), 60 CANSRX (io), 61 CANSTX (io), 62 SCI1CLK (io), 63 SCI1TX (io), 64 SCI1RX (io), 67 ADEVT (io), 80 ADREFHI (in), 81 ADREFLO (in)
part D pins: 26 ~{TRST} (in), 52 TDI (in), 53 TDO (out), 54 TCK (in), 84 TMS (in), 85 TMS2 (in)
part E pins: 6 VSS (power), 9 VCC (power), 11 VSSIO (power), 12 VCCIO (power), 39 VSS (power), 40 VCC (power), 57 VSSIO (power), 58 VCCIO (power), 65 VSS (power), 66 VCC (power), 82 VCCAD (power), 83 VSSAD (power), 86 VSS (power), 87 VCC (power), 90 VSS (power), 91 VCC (power)
part F pins: 92 NC, 93 NC, 94 NC

## TMS470R1VC338APZ-T
designator U?
ARM7TDMI 16/32-Bit RISC Automotive MCU, 256KB ROM, 12KB RAM, 100-pin LQFP, -40ºC to 105ºC; Note: The HET[28] signal is only connected to the pad, not to a package pin.; Published: 30-Mar-2007; DatasheetVersion: Jan-2006; PackageVersion: Dec-1996; PackageReference: PZ100; Publisher: Altium Limited; PackageDescription: 100-Pin Thin Quad Flat Pack 0.5 mm Pitch; ComponentLink1Description: Manufacturer Link; ComponentLink1URL: http://www.ti.com/; ComponentLink2Description: Datasheet; ComponentLink2URL: http://focus.ti.com/lit/ds/symlink/tms470r1vc338.pdf
footprint PZ100_N (Thin QFP, 100-Leads, Body 14x14mm, Pitch 0.5mm, IPC Medium Density)
footprint PZ100_L (Thin QFP, 100-Leads, Body 14x14mm, Pitch 0.5mm, IPC High Density)
footprint PZ100_M (Thin QFP, 100-Leads, Body 14x14mm, Pitch 0.5mm, IPC Low Density)
part A pins: 22 GIOA[7]/INT7 (io), 23 GIOA[6]/INT6 (io), 24 GIOA[5]/INT5 (io), 25 GIOA[4]/INT4 (io), 28 GIOA[0]/INT0 (in), 29 GIOA[1]/INT1/ECLK (io)
part B pins: 13 HET[17] (io), 14 HET[16] (io), 15 HET[15] (io), 16 HET[14] (io), 17 HET[13] (io), 18 HET[12] (io), 19 HET[11] (io), 20 HET[10] (io), 32 HET[29] (io), 33 HET[30] (io), 34 HET[31] (io), 35 HET[24] (io), 45 HET[22] (io), 46 HET[21] (io), 47 HET[20] (io), 48 HET[19] (io), 49 HET[18] (io), 55 HET[8] (io), 56 HET[9] (io), 68 ADIN[7] (in), 69 ADIN[6] (in), 70 ADIN[5] (in), 71 ADIN[4] (in), 72 ADIN[3] (in), 73 ADIN[2] (in), 74 ADIN[1] (in), 75 ADIN[0] (in), 76 ADIN[11] (in), 77 ADIN[10] (in), 78 ADIN[9] (in), 79 ADIN[8] (in), 88 HET[0] (io), 89 HET[1] (io), 95 HET[2] (io), 96 HET[3] (io), 97 HET[4] (io), 98 HET[5] (io), 99 HET[6] (io), 100 HET[7] (io)
part C pins: 1 ~{SPI1ENA} (io), 2 ~{SPI1SCS} (io), 3 SPI1SIMO (io), 4 SPI1SOMI (io), 5 SPI1CLK (io), 7 OSCOUT (out), 8 OSCIN (in), 10 ~{RST} (io), 21 ~{PORRST} (in), 27 TEST (in), 30 SCI2RX (io), 31 SCI2TX (io), 36 C2SIbLPN (io), 37 C2SIbTX (io), 38 C2SIbRX (io), 41 SPI2CLK (io), 42 SPI2SIMO (io), 43 SPI2SOMI (io), 44 ~{SPI2ENA} (io), 50 AWD (io), 51 PLLDIS (in), 59 CLKOUT (io), 60 CANSRX (io), 61 CANSTX (io), 62 SCI1CLK (io), 63 SCI1TX (io), 64 SCI1RX (io), 67 ADEVT (io), 80 ADREFHI (in), 81 ADREFLO (in)
part D pins: 26 ~{TRST} (in), 52 TDI (in), 53 TDO (out), 54 TCK (in), 84 TMS (in), 85 TMS2 (in)
part E pins: 6 VSS (power), 9 VCC (power), 11 VSSIO (power), 12 VCCIO (power), 39 VSS (power), 40 VCC (power), 57 VSSIO (power), 58 VCCIO (power), 65 VSS (power), 66 VCC (power), 82 VCCAD (power), 83 VSSAD (power), 86 VSS (power), 87 VCC (power), 90 VSS (power), 91 VCC (power)
part F pins: 92 NC, 93 NC, 94 NC

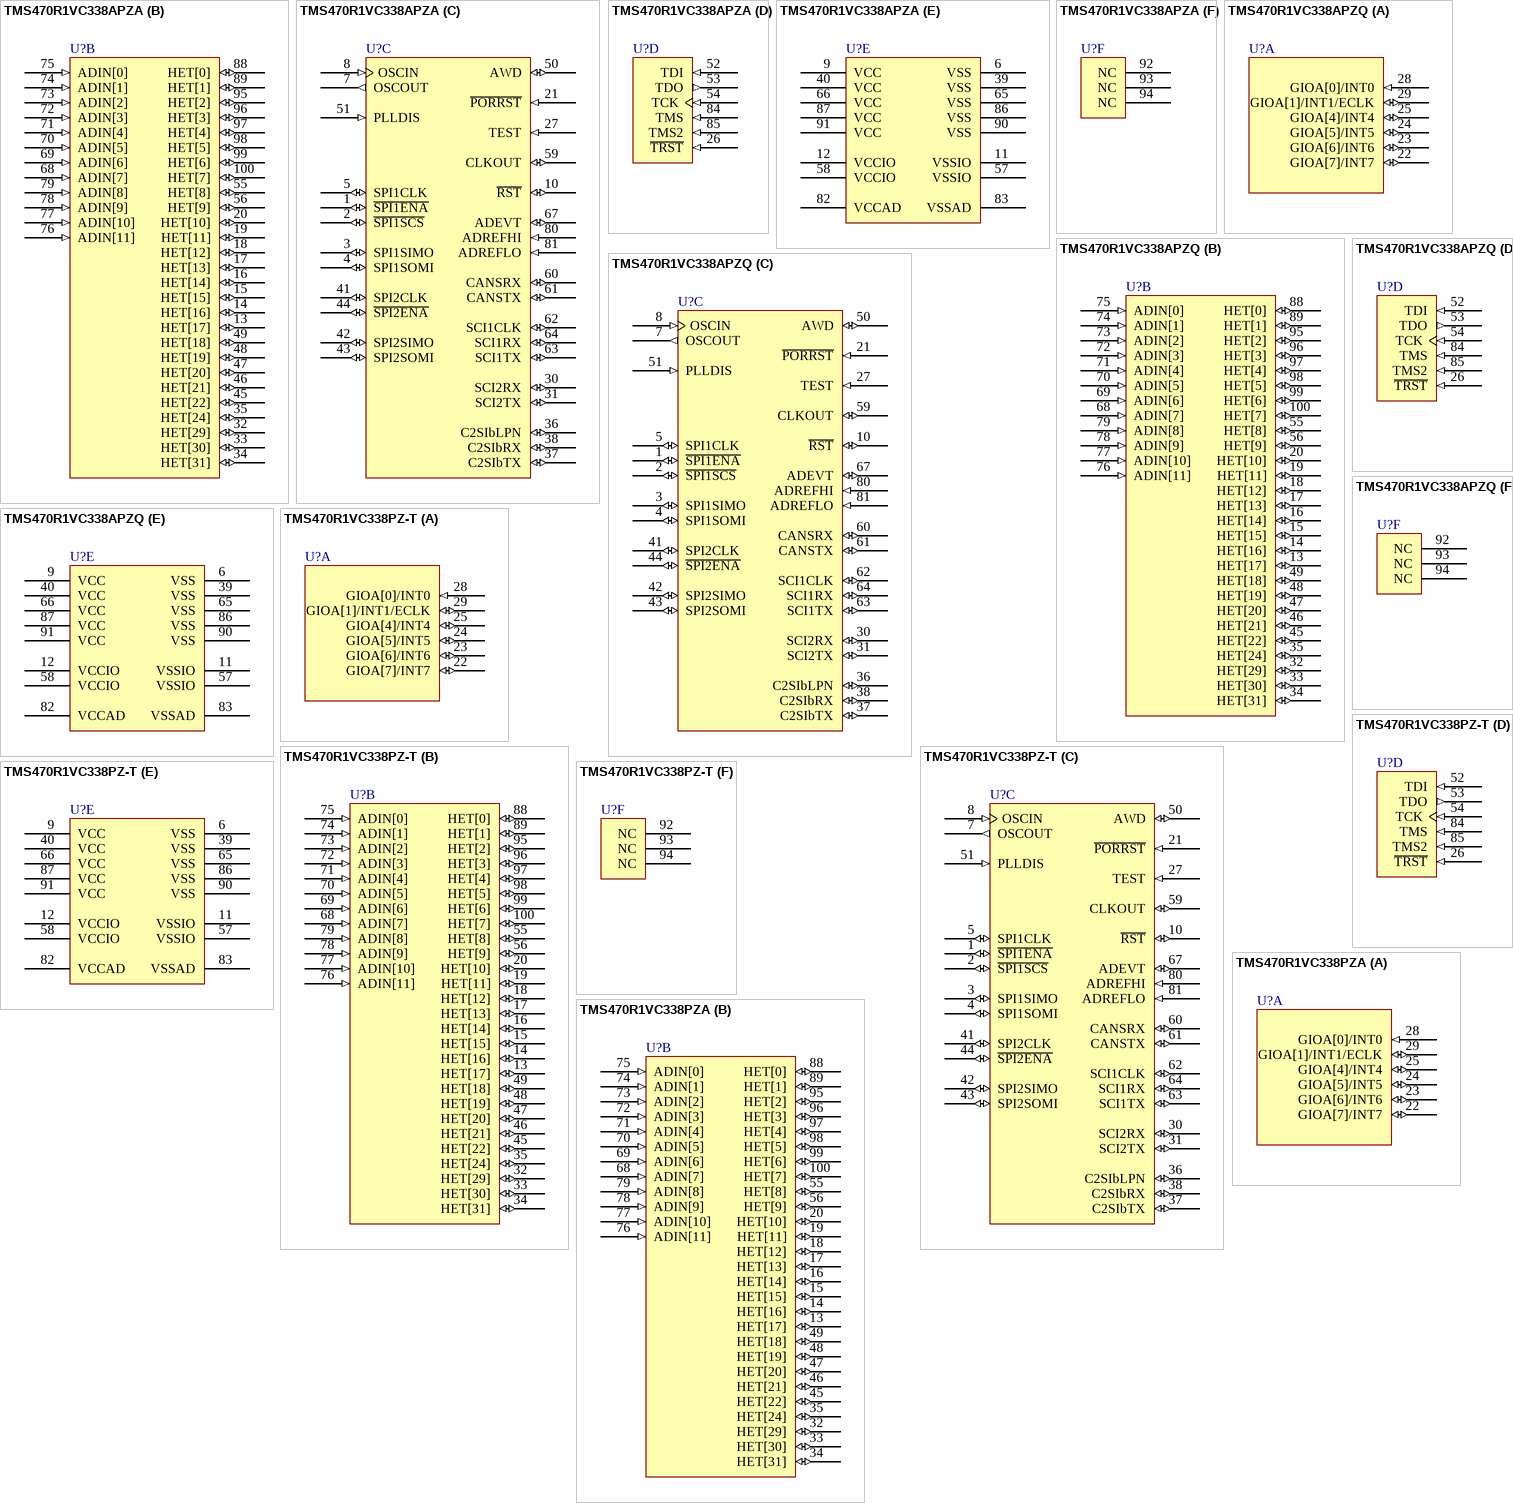
[diagram p14: symbols TMS470R1VC338APZA to TMS470R1VC338PZA]

## TMS470R1VC338APZA
designator U?
ARM7TDMI 16/32-Bit RISC Automotive MCU, 256KB ROM, 12KB RAM, 100-pin LQFP, -40ºC to 85ºC; Note: The HET[28] signal is only connected to the pad, not to a package pin.; Published: 30-Mar-2007; DatasheetVersion: Jan-2006; PackageVersion: Dec-1996; PackageReference: PZ100; Publisher: Altium Limited; PackageDescription: 100-Pin Thin Quad Flat Pack 0.5 mm Pitch; ComponentLink1Description: Manufacturer Link; ComponentLink1URL: http://www.ti.com/; ComponentLink2Description: Datasheet; ComponentLink2URL: http://focus.ti.com/lit/ds/symlink/tms470r1vc338.pdf
footprint PZ100_N (Thin QFP, 100-Leads, Body 14x14mm, Pitch 0.5mm, IPC Medium Density)
footprint PZ100_L (Thin QFP, 100-Leads, Body 14x14mm, Pitch 0.5mm, IPC High Density)
footprint PZ100_M (Thin QFP, 100-Leads, Body 14x14mm, Pitch 0.5mm, IPC Low Density)
part A pins: 22 GIOA[7]/INT7 (io), 23 GIOA[6]/INT6 (io), 24 GIOA[5]/INT5 (io), 25 GIOA[4]/INT4 (io), 28 GIOA[0]/INT0 (in), 29 GIOA[1]/INT1/ECLK (io)
part B pins: 13 HET[17] (io), 14 HET[16] (io), 15 HET[15] (io), 16 HET[14] (io), 17 HET[13] (io), 18 HET[12] (io), 19 HET[11] (io), 20 HET[10] (io), 32 HET[29] (io), 33 HET[30] (io), 34 HET[31] (io), 35 HET[24] (io), 45 HET[22] (io), 46 HET[21] (io), 47 HET[20] (io), 48 HET[19] (io), 49 HET[18] (io), 55 HET[8] (io), 56 HET[9] (io), 68 ADIN[7] (in), 69 ADIN[6] (in), 70 ADIN[5] (in), 71 ADIN[4] (in), 72 ADIN[3] (in), 73 ADIN[2] (in), 74 ADIN[1] (in), 75 ADIN[0] (in), 76 ADIN[11] (in), 77 ADIN[10] (in), 78 ADIN[9] (in), 79 ADIN[8] (in), 88 HET[0] (io), 89 HET[1] (io), 95 HET[2] (io), 96 HET[3] (io), 97 HET[4] (io), 98 HET[5] (io), 99 HET[6] (io), 100 HET[7] (io)
part C pins: 1 ~{SPI1ENA} (io), 2 ~{SPI1SCS} (io), 3 SPI1SIMO (io), 4 SPI1SOMI (io), 5 SPI1CLK (io), 7 OSCOUT (out), 8 OSCIN (in), 10 ~{RST} (io), 21 ~{PORRST} (in), 27 TEST (in), 30 SCI2RX (io), 31 SCI2TX (io), 36 C2SIbLPN (io), 37 C2SIbTX (io), 38 C2SIbRX (io), 41 SPI2CLK (io), 42 SPI2SIMO (io), 43 SPI2SOMI (io), 44 ~{SPI2ENA} (io), 50 AWD (io), 51 PLLDIS (in), 59 CLKOUT (io), 60 CANSRX (io), 61 CANSTX (io), 62 SCI1CLK (io), 63 SCI1TX (io), 64 SCI1RX (io), 67 ADEVT (io), 80 ADREFHI (in), 81 ADREFLO (in)
part D pins: 26 ~{TRST} (in), 52 TDI (in), 53 TDO (out), 54 TCK (in), 84 TMS (in), 85 TMS2 (in)
part E pins: 6 VSS (power), 9 VCC (power), 11 VSSIO (power), 12 VCCIO (power), 39 VSS (power), 40 VCC (power), 57 VSSIO (power), 58 VCCIO (power), 65 VSS (power), 66 VCC (power), 82 VCCAD (power), 83 VSSAD (power), 86 VSS (power), 87 VCC (power), 90 VSS (power), 91 VCC (power)
part F pins: 92 NC, 93 NC, 94 NC

## TMS470R1VC338APZQ
designator U?
ARM7TDMI 16/32-Bit RISC Automotive MCU, 256KB ROM, 12KB RAM, 100-pin LQFP, -40ºC to 125ºC; Note: The HET[28] signal is only connected to the pad, not to a package pin.; Published: 30-Mar-2007; DatasheetVersion: Jan-2006; PackageVersion: Dec-1996; PackageReference: PZ100; Publisher: Altium Limited; PackageDescription: 100-Pin Thin Quad Flat Pack 0.5 mm Pitch; ComponentLink1Description: Manufacturer Link; ComponentLink1URL: http://www.ti.com/; ComponentLink2Description: Datasheet; ComponentLink2URL: http://focus.ti.com/lit/ds/symlink/tms470r1vc338.pdf
footprint PZ100_N (Thin QFP, 100-Leads, Body 14x14mm, Pitch 0.5mm, IPC Medium Density)
footprint PZ100_L (Thin QFP, 100-Leads, Body 14x14mm, Pitch 0.5mm, IPC High Density)
footprint PZ100_M (Thin QFP, 100-Leads, Body 14x14mm, Pitch 0.5mm, IPC Low Density)
part A pins: 22 GIOA[7]/INT7 (io), 23 GIOA[6]/INT6 (io), 24 GIOA[5]/INT5 (io), 25 GIOA[4]/INT4 (io), 28 GIOA[0]/INT0 (in), 29 GIOA[1]/INT1/ECLK (io)
part B pins: 13 HET[17] (io), 14 HET[16] (io), 15 HET[15] (io), 16 HET[14] (io), 17 HET[13] (io), 18 HET[12] (io), 19 HET[11] (io), 20 HET[10] (io), 32 HET[29] (io), 33 HET[30] (io), 34 HET[31] (io), 35 HET[24] (io), 45 HET[22] (io), 46 HET[21] (io), 47 HET[20] (io), 48 HET[19] (io), 49 HET[18] (io), 55 HET[8] (io), 56 HET[9] (io), 68 ADIN[7] (in), 69 ADIN[6] (in), 70 ADIN[5] (in), 71 ADIN[4] (in), 72 ADIN[3] (in), 73 ADIN[2] (in), 74 ADIN[1] (in), 75 ADIN[0] (in), 76 ADIN[11] (in), 77 ADIN[10] (in), 78 ADIN[9] (in), 79 ADIN[8] (in), 88 HET[0] (io), 89 HET[1] (io), 95 HET[2] (io), 96 HET[3] (io), 97 HET[4] (io), 98 HET[5] (io), 99 HET[6] (io), 100 HET[7] (io)
part C pins: 1 ~{SPI1ENA} (io), 2 ~{SPI1SCS} (io), 3 SPI1SIMO (io), 4 SPI1SOMI (io), 5 SPI1CLK (io), 7 OSCOUT (out), 8 OSCIN (in), 10 ~{RST} (io), 21 ~{PORRST} (in), 27 TEST (in), 30 SCI2RX (io), 31 SCI2TX (io), 36 C2SIbLPN (io), 37 C2SIbTX (io), 38 C2SIbRX (io), 41 SPI2CLK (io), 42 SPI2SIMO (io), 43 SPI2SOMI (io), 44 ~{SPI2ENA} (io), 50 AWD (io), 51 PLLDIS (in), 59 CLKOUT (io), 60 CANSRX (io), 61 CANSTX (io), 62 SCI1CLK (io), 63 SCI1TX (io), 64 SCI1RX (io), 67 ADEVT (io), 80 ADREFHI (in), 81 ADREFLO (in)
part D pins: 26 ~{TRST} (in), 52 TDI (in), 53 TDO (out), 54 TCK (in), 84 TMS (in), 85 TMS2 (in)
part E pins: 6 VSS (power), 9 VCC (power), 11 VSSIO (power), 12 VCCIO (power), 39 VSS (power), 40 VCC (power), 57 VSSIO (power), 58 VCCIO (power), 65 VSS (power), 66 VCC (power), 82 VCCAD (power), 83 VSSAD (power), 86 VSS (power), 87 VCC (power), 90 VSS (power), 91 VCC (power)
part F pins: 92 NC, 93 NC, 94 NC

## TMS470R1VC338PZ-T
designator U?
ARM7TDMI 16/32-Bit RISC Automotive MCU, 256KB ROM, 12KB RAM, 100-pin LQFP, -40ºC to 105ºC; Note: The HET[28] signal is only connected to the pad, not to a package pin.; Published: 30-Mar-2007; DatasheetVersion: Jan-2006; PackageVersion: Dec-1996; PackageReference: PZ100; Publisher: Altium Limited; PackageDescription: 100-Pin Thin Quad Flat Pack 0.5 mm Pitch; ComponentLink1Description: Manufacturer Link; ComponentLink1URL: http://www.ti.com/; ComponentLink2Description: Datasheet; ComponentLink2URL: http://focus.ti.com/lit/ds/symlink/tms470r1vc338.pdf
footprint PZ100_N (Thin QFP, 100-Leads, Body 14x14mm, Pitch 0.5mm, IPC Medium Density)
footprint PZ100_L (Thin QFP, 100-Leads, Body 14x14mm, Pitch 0.5mm, IPC High Density)
footprint PZ100_M (Thin QFP, 100-Leads, Body 14x14mm, Pitch 0.5mm, IPC Low Density)
part A pins: 22 GIOA[7]/INT7 (io), 23 GIOA[6]/INT6 (io), 24 GIOA[5]/INT5 (io), 25 GIOA[4]/INT4 (io), 28 GIOA[0]/INT0 (in), 29 GIOA[1]/INT1/ECLK (io)
part B pins: 13 HET[17] (io), 14 HET[16] (io), 15 HET[15] (io), 16 HET[14] (io), 17 HET[13] (io), 18 HET[12] (io), 19 HET[11] (io), 20 HET[10] (io), 32 HET[29] (io), 33 HET[30] (io), 34 HET[31] (io), 35 HET[24] (io), 45 HET[22] (io), 46 HET[21] (io), 47 HET[20] (io), 48 HET[19] (io), 49 HET[18] (io), 55 HET[8] (io), 56 HET[9] (io), 68 ADIN[7] (in), 69 ADIN[6] (in), 70 ADIN[5] (in), 71 ADIN[4] (in), 72 ADIN[3] (in), 73 ADIN[2] (in), 74 ADIN[1] (in), 75 ADIN[0] (in), 76 ADIN[11] (in), 77 ADIN[10] (in), 78 ADIN[9] (in), 79 ADIN[8] (in), 88 HET[0] (io), 89 HET[1] (io), 95 HET[2] (io), 96 HET[3] (io), 97 HET[4] (io), 98 HET[5] (io), 99 HET[6] (io), 100 HET[7] (io)
part C pins: 1 ~{SPI1ENA} (io), 2 ~{SPI1SCS} (io), 3 SPI1SIMO (io), 4 SPI1SOMI (io), 5 SPI1CLK (io), 7 OSCOUT (out), 8 OSCIN (in), 10 ~{RST} (io), 21 ~{PORRST} (in), 27 TEST (in), 30 SCI2RX (io), 31 SCI2TX (io), 36 C2SIbLPN (io), 37 C2SIbTX (io), 38 C2SIbRX (io), 41 SPI2CLK (io), 42 SPI2SIMO (io), 43 SPI2SOMI (io), 44 ~{SPI2ENA} (io), 50 AWD (io), 51 PLLDIS (in), 59 CLKOUT (io), 60 CANSRX (io), 61 CANSTX (io), 62 SCI1CLK (io), 63 SCI1TX (io), 64 SCI1RX (io), 67 ADEVT (io), 80 ADREFHI (in), 81 ADREFLO (in)
part D pins: 26 ~{TRST} (in), 52 TDI (in), 53 TDO (out), 54 TCK (in), 84 TMS (in), 85 TMS2 (in)
part E pins: 6 VSS (power), 9 VCC (power), 11 VSSIO (power), 12 VCCIO (power), 39 VSS (power), 40 VCC (power), 57 VSSIO (power), 58 VCCIO (power), 65 VSS (power), 66 VCC (power), 82 VCCAD (power), 83 VSSAD (power), 86 VSS (power), 87 VCC (power), 90 VSS (power), 91 VCC (power)
part F pins: 92 NC, 93 NC, 94 NC

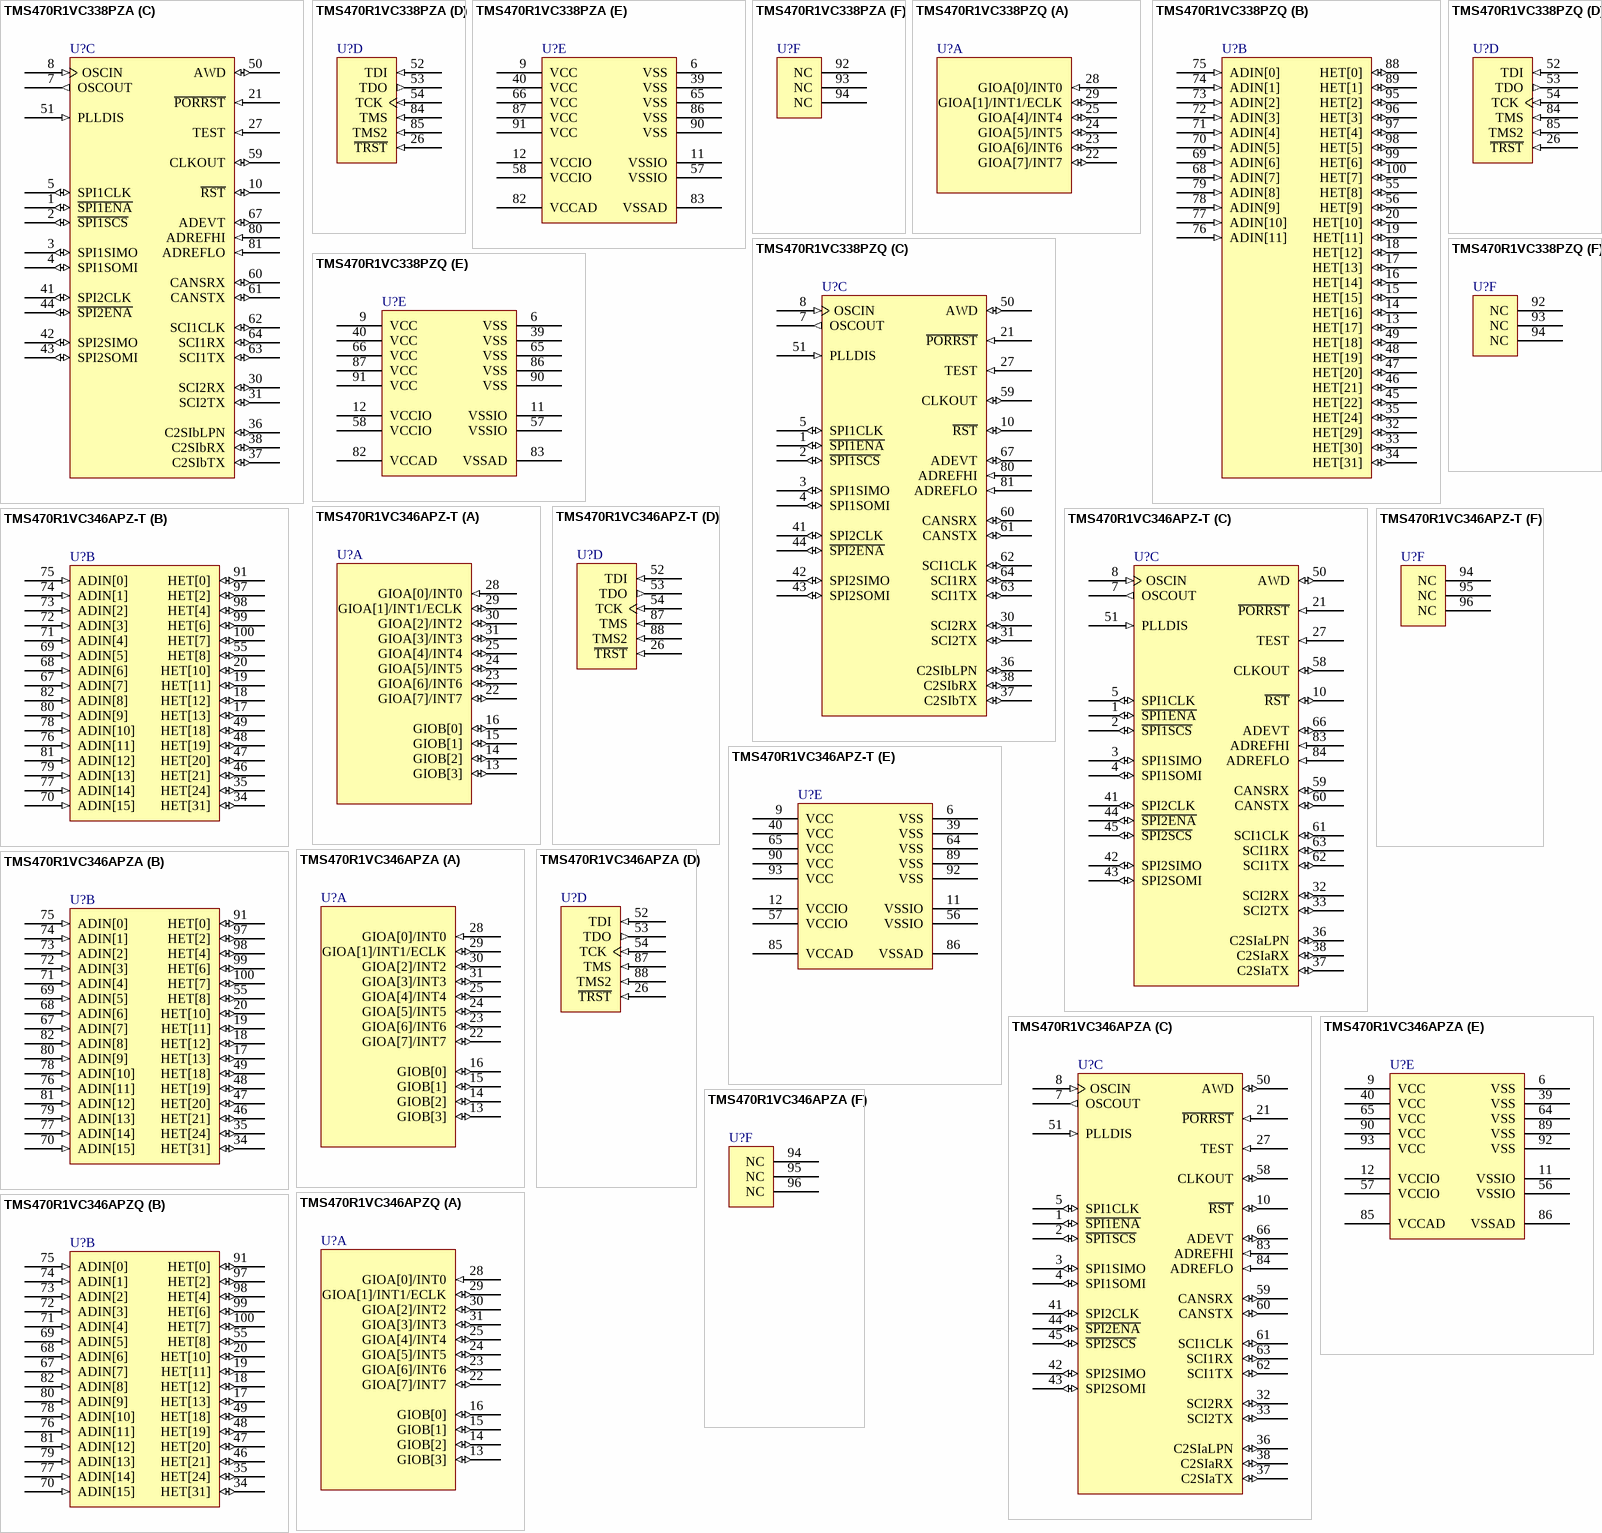
[diagram p15: symbols TMS470R1VC338PZA to TMS470R1VC346APZQ]

## TMS470R1VC338PZA
designator U?
ARM7TDMI 16/32-Bit RISC Automotive MCU, 256KB ROM, 12KB RAM, 100-pin LQFP, -40ºC to 85ºC; Note: The HET[28] signal is only connected to the pad, not to a package pin.; Published: 30-Mar-2007; DatasheetVersion: Jan-2006; PackageVersion: Dec-1996; PackageReference: PZ100; Publisher: Altium Limited; PackageDescription: 100-Pin Thin Quad Flat Pack 0.5 mm Pitch; ComponentLink1Description: Manufacturer Link; ComponentLink1URL: http://www.ti.com/; ComponentLink2Description: Datasheet; ComponentLink2URL: http://focus.ti.com/lit/ds/symlink/tms470r1vc338.pdf
footprint PZ100_N (Thin QFP, 100-Leads, Body 14x14mm, Pitch 0.5mm, IPC Medium Density)
footprint PZ100_L (Thin QFP, 100-Leads, Body 14x14mm, Pitch 0.5mm, IPC High Density)
footprint PZ100_M (Thin QFP, 100-Leads, Body 14x14mm, Pitch 0.5mm, IPC Low Density)
part A pins: 22 GIOA[7]/INT7 (io), 23 GIOA[6]/INT6 (io), 24 GIOA[5]/INT5 (io), 25 GIOA[4]/INT4 (io), 28 GIOA[0]/INT0 (in), 29 GIOA[1]/INT1/ECLK (io)
part B pins: 13 HET[17] (io), 14 HET[16] (io), 15 HET[15] (io), 16 HET[14] (io), 17 HET[13] (io), 18 HET[12] (io), 19 HET[11] (io), 20 HET[10] (io), 32 HET[29] (io), 33 HET[30] (io), 34 HET[31] (io), 35 HET[24] (io), 45 HET[22] (io), 46 HET[21] (io), 47 HET[20] (io), 48 HET[19] (io), 49 HET[18] (io), 55 HET[8] (io), 56 HET[9] (io), 68 ADIN[7] (in), 69 ADIN[6] (in), 70 ADIN[5] (in), 71 ADIN[4] (in), 72 ADIN[3] (in), 73 ADIN[2] (in), 74 ADIN[1] (in), 75 ADIN[0] (in), 76 ADIN[11] (in), 77 ADIN[10] (in), 78 ADIN[9] (in), 79 ADIN[8] (in), 88 HET[0] (io), 89 HET[1] (io), 95 HET[2] (io), 96 HET[3] (io), 97 HET[4] (io), 98 HET[5] (io), 99 HET[6] (io), 100 HET[7] (io)
part C pins: 1 ~{SPI1ENA} (io), 2 ~{SPI1SCS} (io), 3 SPI1SIMO (io), 4 SPI1SOMI (io), 5 SPI1CLK (io), 7 OSCOUT (out), 8 OSCIN (in), 10 ~{RST} (io), 21 ~{PORRST} (in), 27 TEST (in), 30 SCI2RX (io), 31 SCI2TX (io), 36 C2SIbLPN (io), 37 C2SIbTX (io), 38 C2SIbRX (io), 41 SPI2CLK (io), 42 SPI2SIMO (io), 43 SPI2SOMI (io), 44 ~{SPI2ENA} (io), 50 AWD (io), 51 PLLDIS (in), 59 CLKOUT (io), 60 CANSRX (io), 61 CANSTX (io), 62 SCI1CLK (io), 63 SCI1TX (io), 64 SCI1RX (io), 67 ADEVT (io), 80 ADREFHI (in), 81 ADREFLO (in)
part D pins: 26 ~{TRST} (in), 52 TDI (in), 53 TDO (out), 54 TCK (in), 84 TMS (in), 85 TMS2 (in)
part E pins: 6 VSS (power), 9 VCC (power), 11 VSSIO (power), 12 VCCIO (power), 39 VSS (power), 40 VCC (power), 57 VSSIO (power), 58 VCCIO (power), 65 VSS (power), 66 VCC (power), 82 VCCAD (power), 83 VSSAD (power), 86 VSS (power), 87 VCC (power), 90 VSS (power), 91 VCC (power)
part F pins: 92 NC, 93 NC, 94 NC

## TMS470R1VC338PZQ
designator U?
ARM7TDMI 16/32-Bit RISC Automotive MCU, 256KB ROM, 12KB RAM, 100-pin LQFP, -40ºC to 125ºC; Note: The HET[28] signal is only connected to the pad, not to a package pin.; Published: 30-Mar-2007; DatasheetVersion: Jan-2006; PackageVersion: Dec-1996; PackageReference: PZ100; Publisher: Altium Limited; PackageDescription: 100-Pin Thin Quad Flat Pack 0.5 mm Pitch; ComponentLink1Description: Manufacturer Link; ComponentLink1URL: http://www.ti.com/; ComponentLink2Description: Datasheet; ComponentLink2URL: http://focus.ti.com/lit/ds/symlink/tms470r1vc338.pdf
footprint PZ100_N (Thin QFP, 100-Leads, Body 14x14mm, Pitch 0.5mm, IPC Medium Density)
footprint PZ100_L (Thin QFP, 100-Leads, Body 14x14mm, Pitch 0.5mm, IPC High Density)
footprint PZ100_M (Thin QFP, 100-Leads, Body 14x14mm, Pitch 0.5mm, IPC Low Density)
part A pins: 22 GIOA[7]/INT7 (io), 23 GIOA[6]/INT6 (io), 24 GIOA[5]/INT5 (io), 25 GIOA[4]/INT4 (io), 28 GIOA[0]/INT0 (in), 29 GIOA[1]/INT1/ECLK (io)
part B pins: 13 HET[17] (io), 14 HET[16] (io), 15 HET[15] (io), 16 HET[14] (io), 17 HET[13] (io), 18 HET[12] (io), 19 HET[11] (io), 20 HET[10] (io), 32 HET[29] (io), 33 HET[30] (io), 34 HET[31] (io), 35 HET[24] (io), 45 HET[22] (io), 46 HET[21] (io), 47 HET[20] (io), 48 HET[19] (io), 49 HET[18] (io), 55 HET[8] (io), 56 HET[9] (io), 68 ADIN[7] (in), 69 ADIN[6] (in), 70 ADIN[5] (in), 71 ADIN[4] (in), 72 ADIN[3] (in), 73 ADIN[2] (in), 74 ADIN[1] (in), 75 ADIN[0] (in), 76 ADIN[11] (in), 77 ADIN[10] (in), 78 ADIN[9] (in), 79 ADIN[8] (in), 88 HET[0] (io), 89 HET[1] (io), 95 HET[2] (io), 96 HET[3] (io), 97 HET[4] (io), 98 HET[5] (io), 99 HET[6] (io), 100 HET[7] (io)
part C pins: 1 ~{SPI1ENA} (io), 2 ~{SPI1SCS} (io), 3 SPI1SIMO (io), 4 SPI1SOMI (io), 5 SPI1CLK (io), 7 OSCOUT (out), 8 OSCIN (in), 10 ~{RST} (io), 21 ~{PORRST} (in), 27 TEST (in), 30 SCI2RX (io), 31 SCI2TX (io), 36 C2SIbLPN (io), 37 C2SIbTX (io), 38 C2SIbRX (io), 41 SPI2CLK (io), 42 SPI2SIMO (io), 43 SPI2SOMI (io), 44 ~{SPI2ENA} (io), 50 AWD (io), 51 PLLDIS (in), 59 CLKOUT (io), 60 CANSRX (io), 61 CANSTX (io), 62 SCI1CLK (io), 63 SCI1TX (io), 64 SCI1RX (io), 67 ADEVT (io), 80 ADREFHI (in), 81 ADREFLO (in)
part D pins: 26 ~{TRST} (in), 52 TDI (in), 53 TDO (out), 54 TCK (in), 84 TMS (in), 85 TMS2 (in)
part E pins: 6 VSS (power), 9 VCC (power), 11 VSSIO (power), 12 VCCIO (power), 39 VSS (power), 40 VCC (power), 57 VSSIO (power), 58 VCCIO (power), 65 VSS (power), 66 VCC (power), 82 VCCAD (power), 83 VSSAD (power), 86 VSS (power), 87 VCC (power), 90 VSS (power), 91 VCC (power)
part F pins: 92 NC, 93 NC, 94 NC

## TMS470R1VC346APZ-T
designator U?
ARM7TDMI 16/32-Bit RISC Automotive MCU, 128KB ROM, 8KB RAM, 100-pin LQFP, -40ºC to 105ºC; Published: 30-Mar-2007; DatasheetVersion: Aug-2006; PackageVersion: Dec-1996; PackageReference: PZ100; Publisher: Altium Limited; PackageDescription: 100-Pin Thin Quad Flat Pack 0.5 mm Pitch; ComponentLink1Description: Manufacturer Link; ComponentLink1URL: http://www.ti.com/; ComponentLink2Description: Datasheet; ComponentLink2URL: http://focus.ti.com/lit/ds/symlink/tms470r1vc336a.pdf
footprint PZ100_N (Thin QFP, 100-Leads, Body 14x14mm, Pitch 0.5mm, IPC Medium Density)
footprint PZ100_L (Thin QFP, 100-Leads, Body 14x14mm, Pitch 0.5mm, IPC High Density)
footprint PZ100_M (Thin QFP, 100-Leads, Body 14x14mm, Pitch 0.5mm, IPC Low Density)
part A pins: 13 GIOB[3] (io), 14 GIOB[2] (io), 15 GIOB[1] (io), 16 GIOB[0] (io), 22 GIOA[7]/INT7 (io), 23 GIOA[6]/INT6 (io), 24 GIOA[5]/INT5 (io), 25 GIOA[4]/INT4 (io), 28 GIOA[0]/INT0 (in), 29 GIOA[1]/INT1/ECLK (io), 30 GIOA[2]/INT2 (io), 31 GIOA[3]/INT3 (io)
part B pins: 17 HET[13] (io), 18 HET[12] (io), 19 HET[11] (io), 20 HET[10] (io), 34 HET[31] (io), 35 HET[24] (io), 46 HET[21] (io), 47 HET[20] (io), 48 HET[19] (io), 49 HET[18] (io), 55 HET[8] (io), 67 ADIN[7] (in), 68 ADIN[6] (in), 69 ADIN[5] (in), 70 ADIN[15] (in), 71 ADIN[4] (in), 72 ADIN[3] (in), 73 ADIN[2] (in), 74 ADIN[1] (in), 75 ADIN[0] (in), 76 ADIN[11] (in), 77 ADIN[14] (in), 78 ADIN[10] (in), 79 ADIN[13] (in), 80 ADIN[9] (in), 81 ADIN[12] (in), 82 ADIN[8] (in), 91 HET[0] (io), 97 HET[2] (io), 98 HET[4] (io), 99 HET[6] (io), 100 HET[7] (io)
part C pins: 1 ~{SPI1ENA} (io), 2 ~{SPI1SCS} (io), 3 SPI1SIMO (io), 4 SPI1SOMI (io), 5 SPI1CLK (io), 7 OSCOUT (out), 8 OSCIN (in), 10 ~{RST} (io), 21 ~{PORRST} (in), 27 TEST (in), 32 SCI2RX (io), 33 SCI2TX (io), 36 C2SIaLPN (io), 37 C2SIaTX (io), 38 C2SIaRX (io), 41 SPI2CLK (io), 42 SPI2SIMO (io), 43 SPI2SOMI (io), 44 ~{SPI2ENA} (io), 45 ~{SPI2SCS} (io), 50 AWD (io), 51 PLLDIS (in), 58 CLKOUT (io), 59 CANSRX (io), 60 CANSTX (io), 61 SCI1CLK (io), 62 SCI1TX (io), 63 SCI1RX (io), 66 ADEVT (io), 83 ADREFHI (in), 84 ADREFLO (in)
part D pins: 26 ~{TRST} (in), 52 TDI (in), 53 TDO (out), 54 TCK (in), 87 TMS (in), 88 TMS2 (in)
part E pins: 6 VSS (power), 9 VCC (power), 11 VSSIO (power), 12 VCCIO (power), 39 VSS (power), 40 VCC (power), 56 VSSIO (power), 57 VCCIO (power), 64 VSS (power), 65 VCC (power), 85 VCCAD (power), 86 VSSAD (power), 89 VSS (power), 90 VCC (power), 92 VSS (power), 93 VCC (power)
part F pins: 94 NC, 95 NC, 96 NC

## TMS470R1VC346APZA
designator U?
ARM7TDMI 16/32-Bit RISC Automotive MCU, 128KB ROM, 8KB RAM, 100-pin LQFP, -40ºC to 85ºC; Published: 30-Mar-2007; DatasheetVersion: Aug-2006; PackageVersion: Dec-1996; PackageReference: PZ100; Publisher: Altium Limited; PackageDescription: 100-Pin Thin Quad Flat Pack 0.5 mm Pitch; ComponentLink1Description: Manufacturer Link; ComponentLink1URL: http://www.ti.com/; ComponentLink2Description: Datasheet; ComponentLink2URL: http://focus.ti.com/lit/ds/symlink/tms470r1vc336a.pdf
footprint PZ100_N (Thin QFP, 100-Leads, Body 14x14mm, Pitch 0.5mm, IPC Medium Density)
footprint PZ100_L (Thin QFP, 100-Leads, Body 14x14mm, Pitch 0.5mm, IPC High Density)
footprint PZ100_M (Thin QFP, 100-Leads, Body 14x14mm, Pitch 0.5mm, IPC Low Density)
part A pins: 13 GIOB[3] (io), 14 GIOB[2] (io), 15 GIOB[1] (io), 16 GIOB[0] (io), 22 GIOA[7]/INT7 (io), 23 GIOA[6]/INT6 (io), 24 GIOA[5]/INT5 (io), 25 GIOA[4]/INT4 (io), 28 GIOA[0]/INT0 (in), 29 GIOA[1]/INT1/ECLK (io), 30 GIOA[2]/INT2 (io), 31 GIOA[3]/INT3 (io)
part B pins: 17 HET[13] (io), 18 HET[12] (io), 19 HET[11] (io), 20 HET[10] (io), 34 HET[31] (io), 35 HET[24] (io), 46 HET[21] (io), 47 HET[20] (io), 48 HET[19] (io), 49 HET[18] (io), 55 HET[8] (io), 67 ADIN[7] (in), 68 ADIN[6] (in), 69 ADIN[5] (in), 70 ADIN[15] (in), 71 ADIN[4] (in), 72 ADIN[3] (in), 73 ADIN[2] (in), 74 ADIN[1] (in), 75 ADIN[0] (in), 76 ADIN[11] (in), 77 ADIN[14] (in), 78 ADIN[10] (in), 79 ADIN[13] (in), 80 ADIN[9] (in), 81 ADIN[12] (in), 82 ADIN[8] (in), 91 HET[0] (io), 97 HET[2] (io), 98 HET[4] (io), 99 HET[6] (io), 100 HET[7] (io)
part C pins: 1 ~{SPI1ENA} (io), 2 ~{SPI1SCS} (io), 3 SPI1SIMO (io), 4 SPI1SOMI (io), 5 SPI1CLK (io), 7 OSCOUT (out), 8 OSCIN (in), 10 ~{RST} (io), 21 ~{PORRST} (in), 27 TEST (in), 32 SCI2RX (io), 33 SCI2TX (io), 36 C2SIaLPN (io), 37 C2SIaTX (io), 38 C2SIaRX (io), 41 SPI2CLK (io), 42 SPI2SIMO (io), 43 SPI2SOMI (io), 44 ~{SPI2ENA} (io), 45 ~{SPI2SCS} (io), 50 AWD (io), 51 PLLDIS (in), 58 CLKOUT (io), 59 CANSRX (io), 60 CANSTX (io), 61 SCI1CLK (io), 62 SCI1TX (io), 63 SCI1RX (io), 66 ADEVT (io), 83 ADREFHI (in), 84 ADREFLO (in)
part D pins: 26 ~{TRST} (in), 52 TDI (in), 53 TDO (out), 54 TCK (in), 87 TMS (in), 88 TMS2 (in)
part E pins: 6 VSS (power), 9 VCC (power), 11 VSSIO (power), 12 VCCIO (power), 39 VSS (power), 40 VCC (power), 56 VSSIO (power), 57 VCCIO (power), 64 VSS (power), 65 VCC (power), 85 VCCAD (power), 86 VSSAD (power), 89 VSS (power), 90 VCC (power), 92 VSS (power), 93 VCC (power)
part F pins: 94 NC, 95 NC, 96 NC

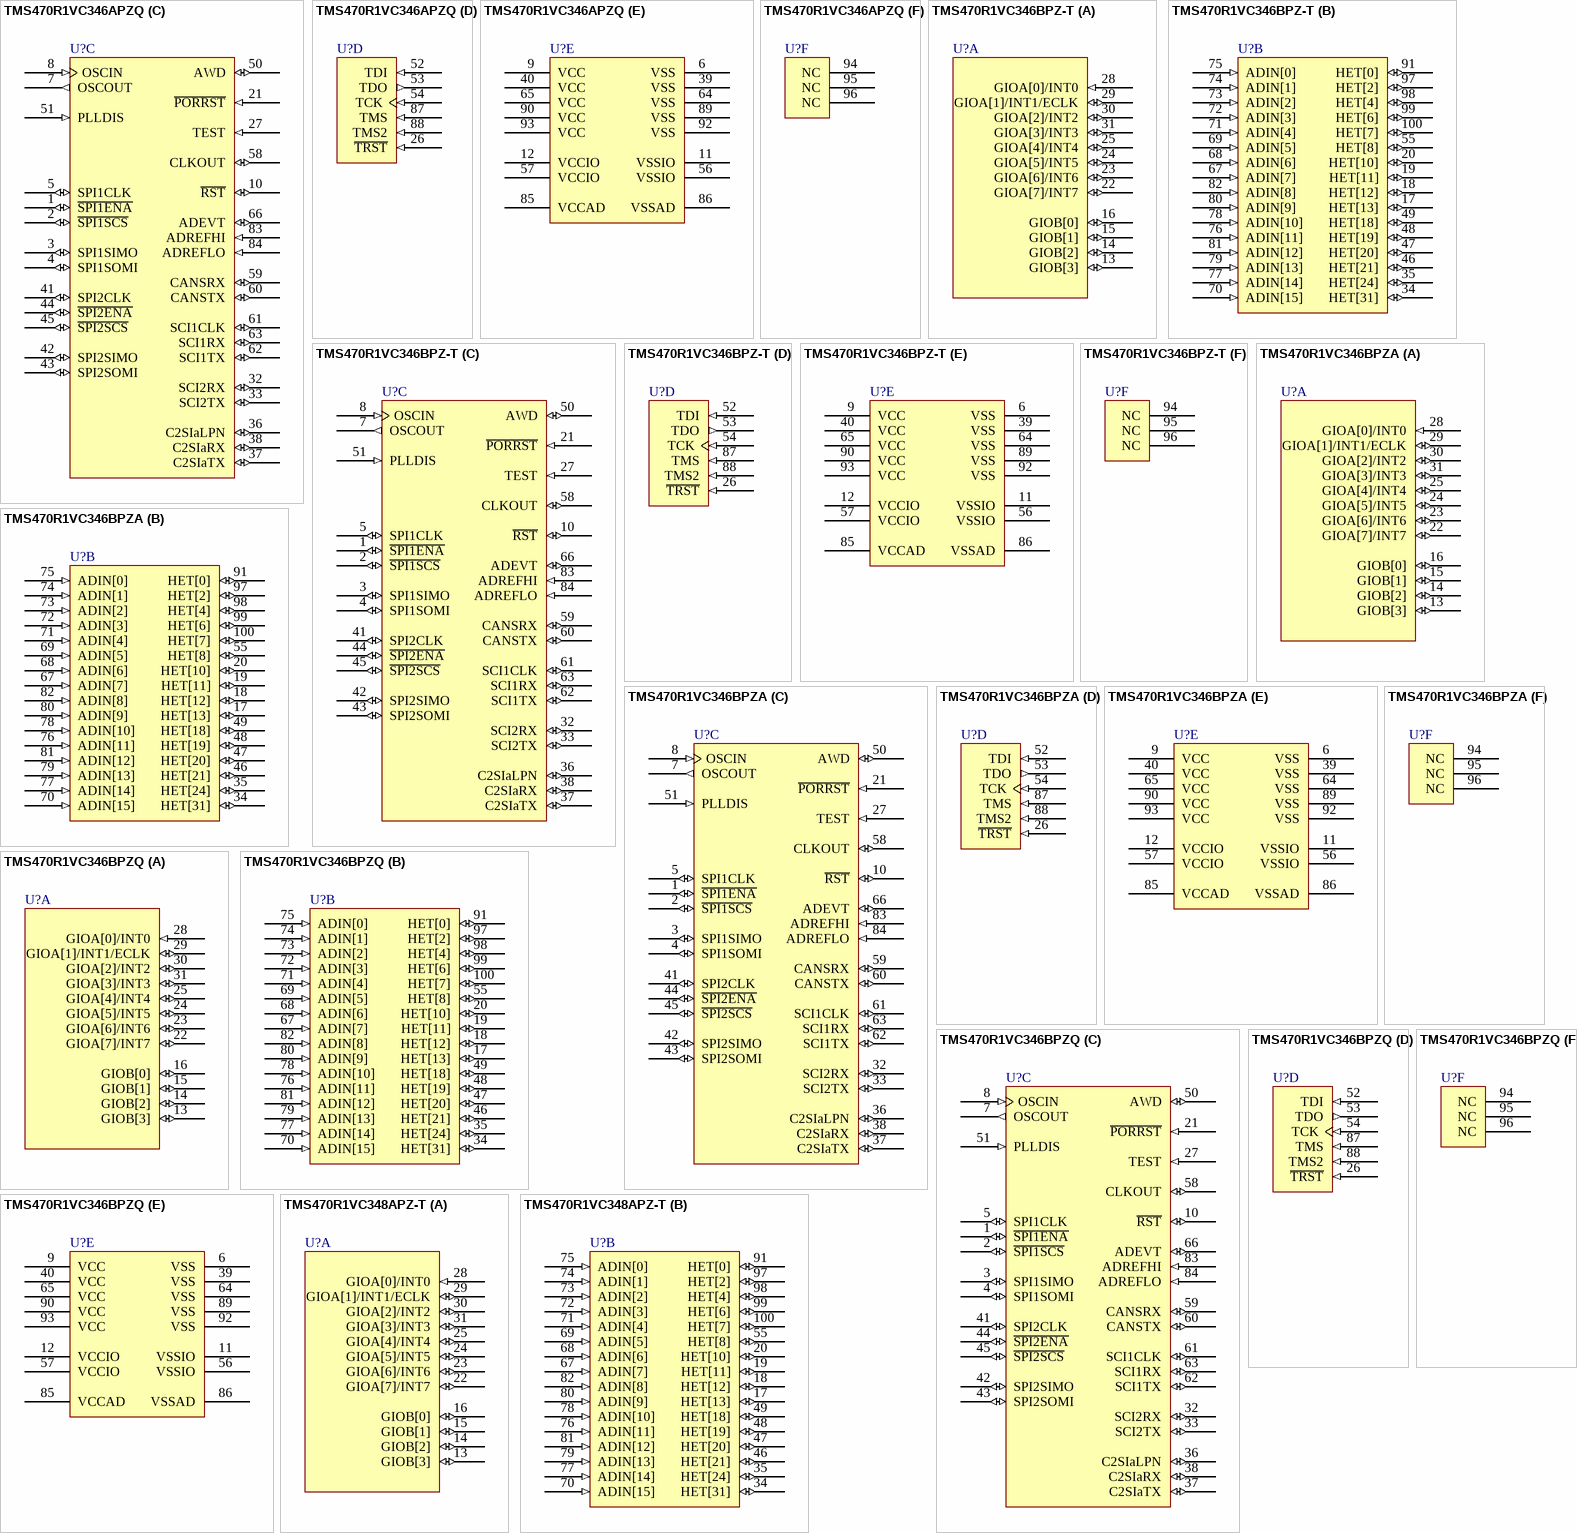
[diagram p16: symbols TMS470R1VC346APZQ to TMS470R1VC348APZ-T]

## TMS470R1VC346APZQ
designator U?
ARM7TDMI 16/32-Bit RISC Automotive MCU, 128KB ROM, 8KB RAM, 100-pin LQFP, -40ºC to 125ºC; Published: 30-Mar-2007; DatasheetVersion: Aug-2006; PackageVersion: Dec-1996; PackageReference: PZ100; Publisher: Altium Limited; PackageDescription: 100-Pin Thin Quad Flat Pack 0.5 mm Pitch; ComponentLink1Description: Manufacturer Link; ComponentLink1URL: http://www.ti.com/; ComponentLink2Description: Datasheet; ComponentLink2URL: http://focus.ti.com/lit/ds/symlink/tms470r1vc336a.pdf
footprint PZ100_N (Thin QFP, 100-Leads, Body 14x14mm, Pitch 0.5mm, IPC Medium Density)
footprint PZ100_L (Thin QFP, 100-Leads, Body 14x14mm, Pitch 0.5mm, IPC High Density)
footprint PZ100_M (Thin QFP, 100-Leads, Body 14x14mm, Pitch 0.5mm, IPC Low Density)
part A pins: 13 GIOB[3] (io), 14 GIOB[2] (io), 15 GIOB[1] (io), 16 GIOB[0] (io), 22 GIOA[7]/INT7 (io), 23 GIOA[6]/INT6 (io), 24 GIOA[5]/INT5 (io), 25 GIOA[4]/INT4 (io), 28 GIOA[0]/INT0 (in), 29 GIOA[1]/INT1/ECLK (io), 30 GIOA[2]/INT2 (io), 31 GIOA[3]/INT3 (io)
part B pins: 17 HET[13] (io), 18 HET[12] (io), 19 HET[11] (io), 20 HET[10] (io), 34 HET[31] (io), 35 HET[24] (io), 46 HET[21] (io), 47 HET[20] (io), 48 HET[19] (io), 49 HET[18] (io), 55 HET[8] (io), 67 ADIN[7] (in), 68 ADIN[6] (in), 69 ADIN[5] (in), 70 ADIN[15] (in), 71 ADIN[4] (in), 72 ADIN[3] (in), 73 ADIN[2] (in), 74 ADIN[1] (in), 75 ADIN[0] (in), 76 ADIN[11] (in), 77 ADIN[14] (in), 78 ADIN[10] (in), 79 ADIN[13] (in), 80 ADIN[9] (in), 81 ADIN[12] (in), 82 ADIN[8] (in), 91 HET[0] (io), 97 HET[2] (io), 98 HET[4] (io), 99 HET[6] (io), 100 HET[7] (io)
part C pins: 1 ~{SPI1ENA} (io), 2 ~{SPI1SCS} (io), 3 SPI1SIMO (io), 4 SPI1SOMI (io), 5 SPI1CLK (io), 7 OSCOUT (out), 8 OSCIN (in), 10 ~{RST} (io), 21 ~{PORRST} (in), 27 TEST (in), 32 SCI2RX (io), 33 SCI2TX (io), 36 C2SIaLPN (io), 37 C2SIaTX (io), 38 C2SIaRX (io), 41 SPI2CLK (io), 42 SPI2SIMO (io), 43 SPI2SOMI (io), 44 ~{SPI2ENA} (io), 45 ~{SPI2SCS} (io), 50 AWD (io), 51 PLLDIS (in), 58 CLKOUT (io), 59 CANSRX (io), 60 CANSTX (io), 61 SCI1CLK (io), 62 SCI1TX (io), 63 SCI1RX (io), 66 ADEVT (io), 83 ADREFHI (in), 84 ADREFLO (in)
part D pins: 26 ~{TRST} (in), 52 TDI (in), 53 TDO (out), 54 TCK (in), 87 TMS (in), 88 TMS2 (in)
part E pins: 6 VSS (power), 9 VCC (power), 11 VSSIO (power), 12 VCCIO (power), 39 VSS (power), 40 VCC (power), 56 VSSIO (power), 57 VCCIO (power), 64 VSS (power), 65 VCC (power), 85 VCCAD (power), 86 VSSAD (power), 89 VSS (power), 90 VCC (power), 92 VSS (power), 93 VCC (power)
part F pins: 94 NC, 95 NC, 96 NC